# Altium schematic symbol library Vyrodov.SchLib: 217 symbols (part 1 of 2)
Pins are listed as number, name and electrical type; pins without a type are passive.

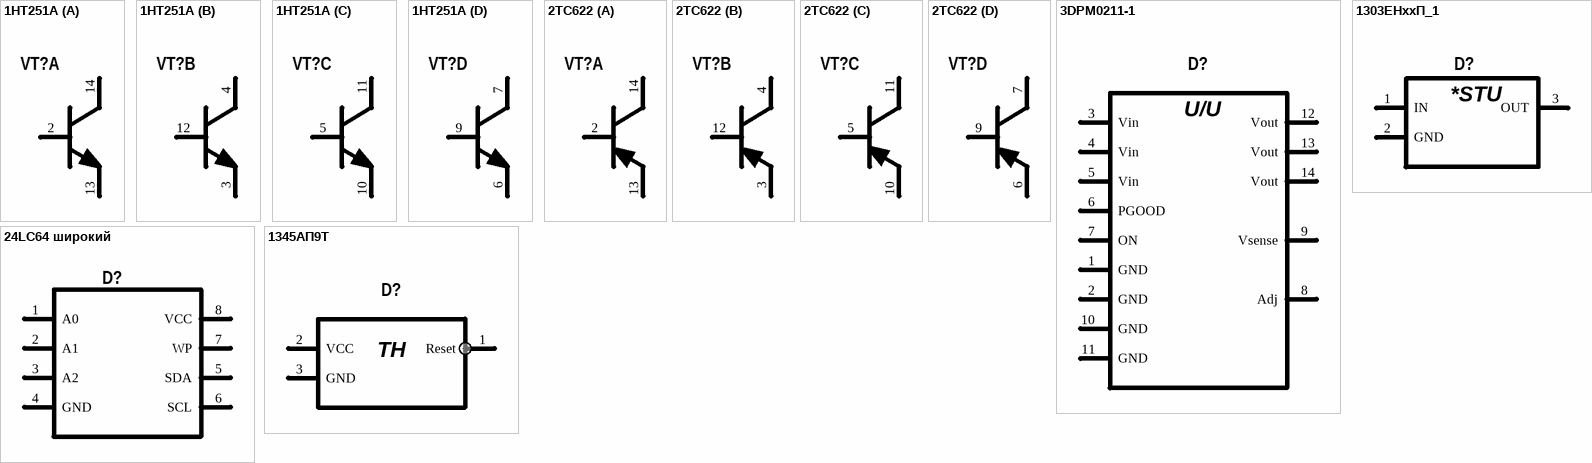
[diagram p0: symbols 1НТ251A to 1345АП9Т]

## 1НТ251A
designator VT?  (value not drawn)
Value: 1НТ251А
footprint 401.14-6 (Footprint not found)
part A pins: 2 B, 13 E, 14 C
part B pins: 3 E, 4 C, 12 B
part C pins: 5 B, 10 E, 11 C
part D pins: 6 У, 7 C, 9 B

## 2ТС622
designator VT?  (value not drawn)
Value: 2ТС622А1
footprint 401.14-6 (Footprint not found)
part A pins: 2 B, 13 E, 14 C
part B pins: 3 E, 4 C, 12 B
part C pins: 5 B, 10 E, 11 C
part D pins: 6 У, 7 C, 9 B

## 3DPM0211-1
designator D?  (value not drawn)
Value: 3DPM0211-1
pins: 1 GND, 2 GND, 3 Vin, 4 Vin, 5 Vin, 6 PGOOD, 7 ON, 8 Adj, 9 Vsense, 10 GND, 11 GND, 12 Vout, 13 Vout, 14 Vout
text: U/U

## 24LC64 широкий
designator D?, comment 24LC64-I/SN  (value not drawn)
footprint SOIC-8 (Footprint not found)
pins: 1 A0, 2 A1, 3 A2, 4 GND (power), 5 SDA, 6 SCL, 7 WP, 8 VCC (power)

## 1303ЕНххП_1
designator D?, comment 1303ЕН1.8П  (value not drawn)
Value: 1303ЕН1.8П
footprint KT-28A-2.05 (Footprint not found)
pins: 1 IN, 2 GND, 3 OUT
text: *STU

## 1345АП9Т
designator D?, comment 1345АП9Т АЯЕР.431310.843ТУ  (value not drawn)
Value: 1345АП9Т АЯЕР.431310.843ТУ
footprint 4601.3-1 (Footprint not found)
pins: 1 Reset, 2 VCC, 3 GND
text: TH

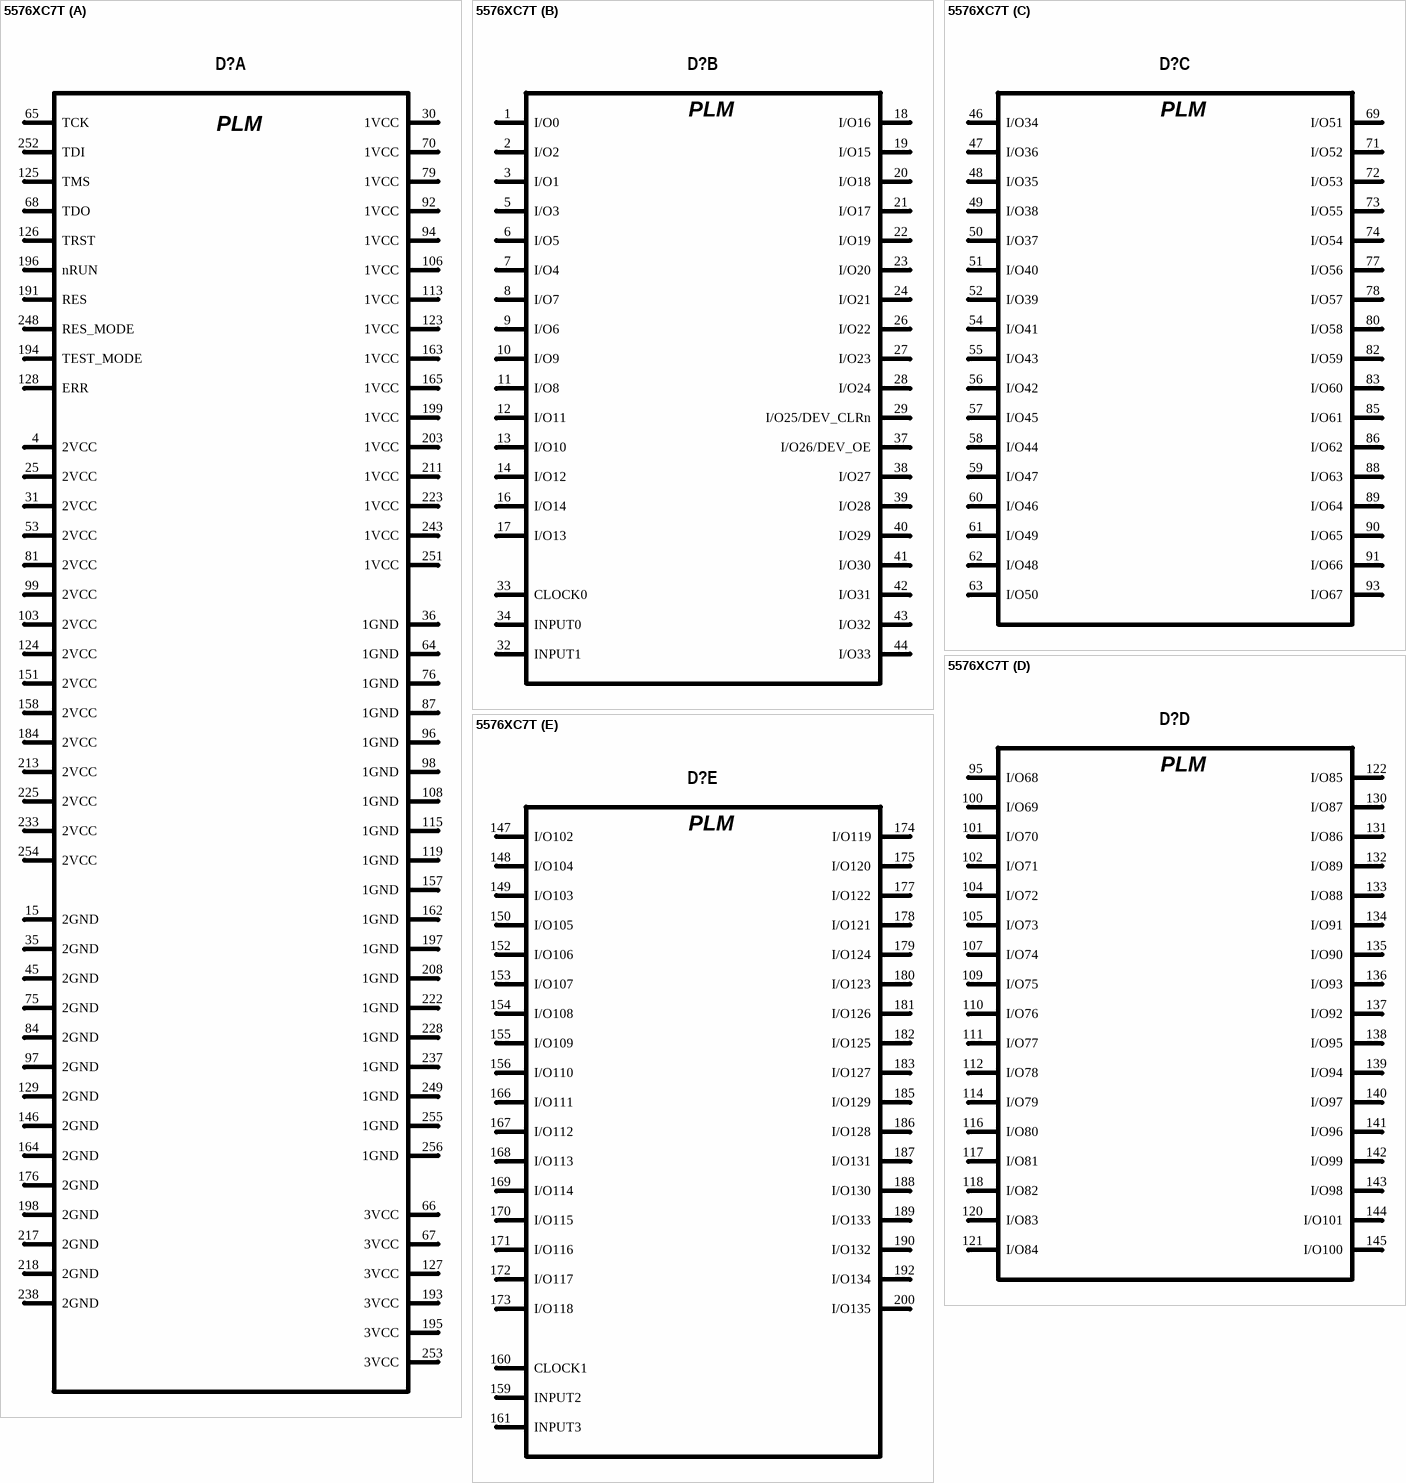
[diagram p1: symbol 5576ХС7Т]

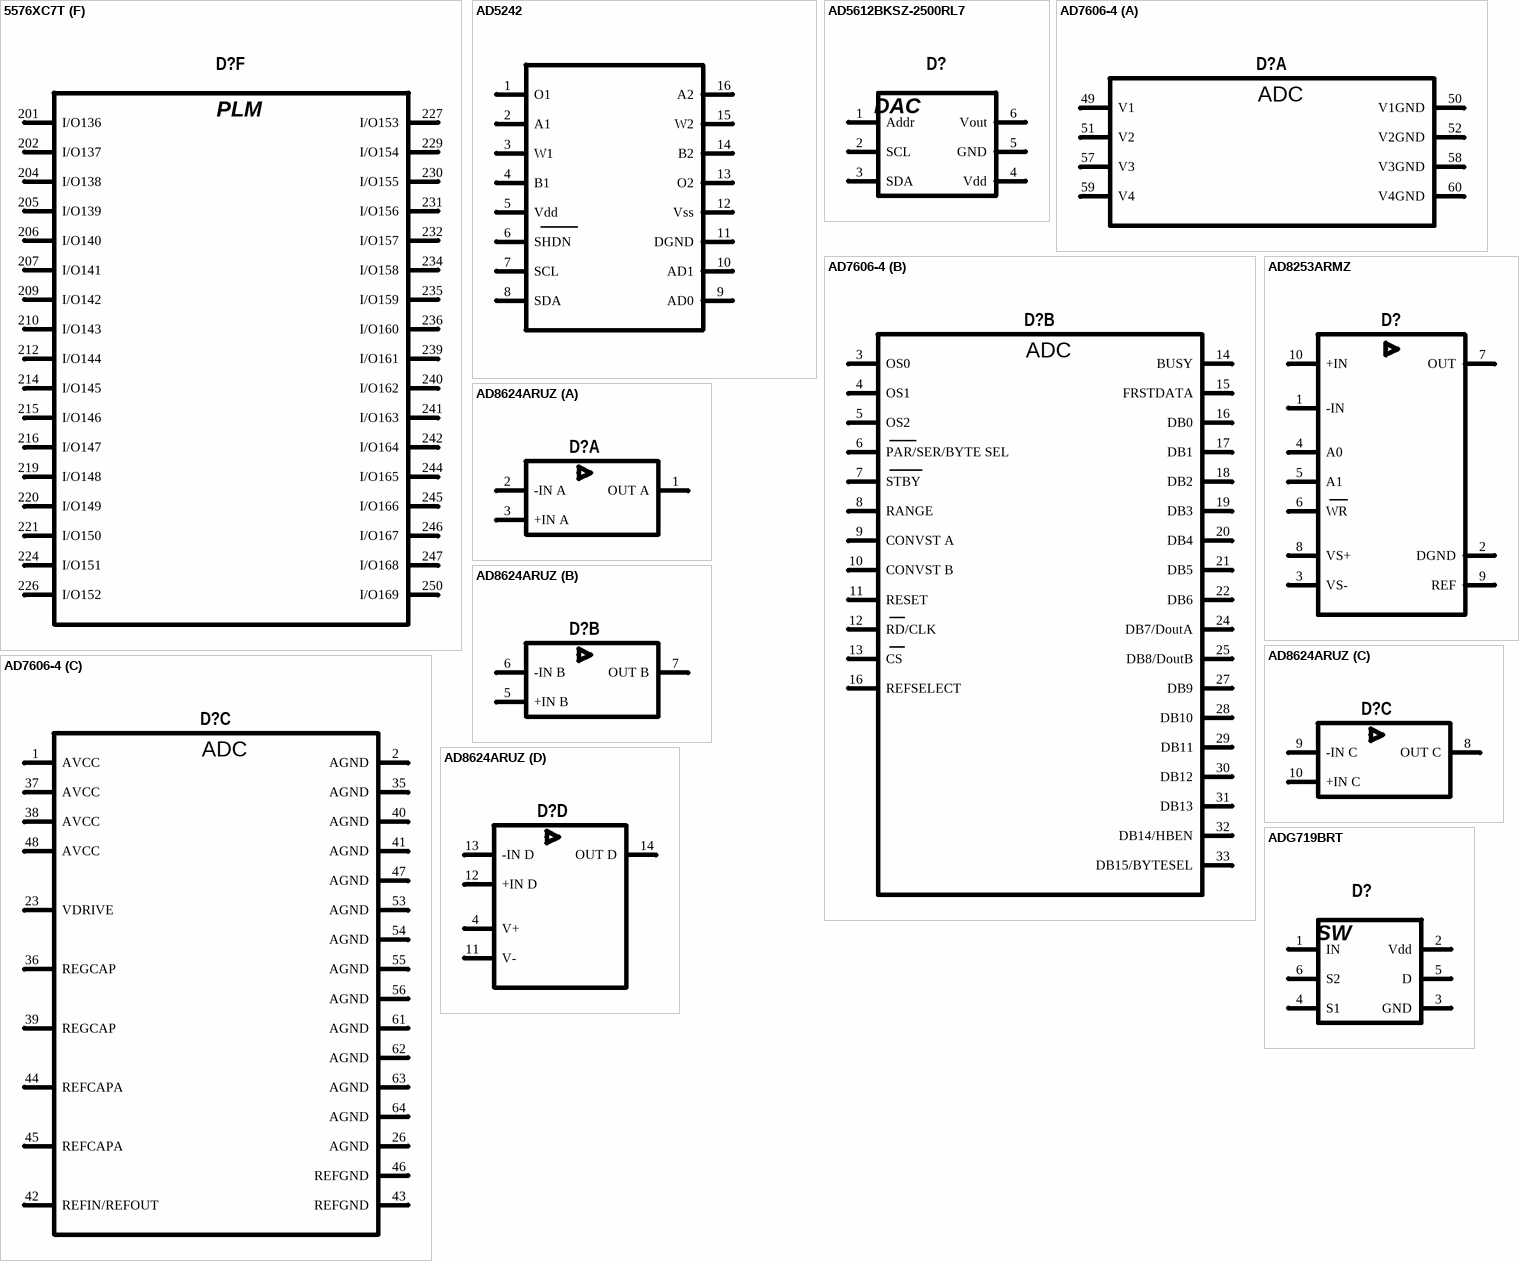
[diagram p2: symbols 5576ХС7Т to ADG719BRT]

## 5576ХС7Т
designator D?, comment 5576ХС7Т АЕНВ.431260.059ТУ  (value not drawn)
Value: 5576ХС7Т АЕНВ.431260.059ТУ
footprint 4244.256-3 (Footprint not found)
part A pins: 4 2VCC, 15 2GND, 25 2VCC, 30 1VCC, 31 2VCC, 35 2GND, 36 1GND, 45 2GND, 53 2VCC, 64 1GND, 65 TCK, 66 3VCC, 67 3VCC, 68 TDO, 70 1VCC, 75 2GND, 76 1GND, 79 1VCC, 81 2VCC, 84 2GND, 87 1GND, 92 1VCC, 94 1VCC, 96 1GND, 97 2GND, 98 1GND, 99 2VCC, 103 2VCC, 106 1VCC, 108 1GND, 113 1VCC, 115 1GND, 119 1GND, 123 1VCC, 124 2VCC, 125 TMS, 126 TRST, 127 3VCC, 128 ERR, 129 2GND, 146 2GND, 151 2VCC, 157 1GND, 158 2VCC, 162 1GND, 163 1VCC, 164 2GND, 165 1VCC, 176 2GND, 184 2VCC, 191 RES, 193 3VCC, 194 TEST_MODE, 195 3VCC, 196 nRUN, 197 1GND, 198 2GND, 199 1VCC, 203 1VCC, 208 1GND, 211 1VCC, 213 2VCC, 217 2GND, 218 2GND, 222 1GND, 223 1VCC, 225 2VCC, 228 1GND, 233 2VCC, 237 1GND, 238 2GND, 243 1VCC, 248 RES_MODE, 249 1GND, 251 1VCC, 252 TDI, 253 3VCC, 254 2VCC, 255 1GND, 256 1GND
part B pins: 1 I/O0, 2 I/O2, 3 I/O1, 5 I/O3, 6 I/O5, 7 I/O4, 8 I/O7, 9 I/O6, 10 I/O9, 11 I/O8, 12 I/O11, 13 I/O10, 14 I/O12, 16 I/O14, 17 I/O13, 18 I/O16, 19 I/O15, 20 I/O18, 21 I/O17, 22 I/O19, 23 I/O20, 24 I/O21, 26 I/O22, 27 I/O23, 28 I/O24, 29 I/O25/DEV_CLRn, 32 INPUT1, 33 CLOCK0, 34 INPUT0, 37 I/O26/DEV_OE, 38 I/O27, 39 I/O28, 40 I/O29, 41 I/O30, 42 I/O31, 43 I/O32, 44 I/O33
part C pins: 46 I/O34, 47 I/O36, 48 I/O35, 49 I/O38, 50 I/O37, 51 I/O40, 52 I/O39, 54 I/O41, 55 I/O43, 56 I/O42, 57 I/O45, 58 I/O44, 59 I/O47, 60 I/O46, 61 I/O49, 62 I/O48, 63 I/O50, 69 I/O51, 71 I/O52, 72 I/O53, 73 I/O55, 74 I/O54, 77 I/O56, 78 I/O57, 80 I/O58, 82 I/O59, 83 I/O60, 85 I/O61, 86 I/O62, 88 I/O63, 89 I/O64, 90 I/O65, 91 I/O66, 93 I/O67
part D pins: 95 I/O68, 100 I/O69, 101 I/O70, 102 I/O71, 104 I/O72, 105 I/O73, 107 I/O74, 109 I/O75, 110 I/O76, 111 I/O77, 112 I/O78, 114 I/O79, 116 I/O80, 117 I/O81, 118 I/O82, 120 I/O83, 121 I/O84, 122 I/O85, 130 I/O87, 131 I/O86, 132 I/O89, 133 I/O88, 134 I/O91, 135 I/O90, 136 I/O93, 137 I/O92, 138 I/O95, 139 I/O94, 140 I/O97, 141 I/O96, 142 I/O99, 143 I/O98, 144 I/O101, 145 I/O100
part E pins: 147 I/O102, 148 I/O104, 149 I/O103, 150 I/O105, 152 I/O106, 153 I/O107, 154 I/O108, 155 I/O109, 156 I/O110, 159 INPUT2, 160 CLOCK1, 161 INPUT3, 166 I/O111, 167 I/O112, 168 I/O113, 169 I/O114, 170 I/O115, 171 I/O116, 172 I/O117, 173 I/O118, 174 I/O119, 175 I/O120, 177 I/O122, 178 I/O121, 179 I/O124, 180 I/O123, 181 I/O126, 182 I/O125, 183 I/O127, 185 I/O129, 186 I/O128, 187 I/O131, 188 I/O130, 189 I/O133, 190 I/O132, 192 I/O134, 200 I/O135
part F pins: 201 I/O136, 202 I/O137, 204 I/O138, 205 I/O139, 206 I/O140, 207 I/O141, 209 I/O142, 210 I/O143, 212 I/O144, 214 I/O145, 215 I/O146, 216 I/O147, 219 I/O148, 220 I/O149, 221 I/O150, 224 I/O151, 226 I/O152, 227 I/O153, 229 I/O154, 230 I/O155, 231 I/O156, 232 I/O157, 234 I/O158, 235 I/O159, 236 I/O160, 239 I/O161, 240 I/O162, 241 I/O163, 242 I/O164, 244 I/O165, 245 I/O166, 246 I/O167, 247 I/O168, 250 I/O169
part A text: PLM
part B text: PLM
part C text: PLM
part D text: PLM
part E text: PLM
part F text: PLM

## AD5242
designator D?, comment DPOT  (value not drawn)
Type: *; Value: *
pins: 1 O1, 2 A1, 3 W1, 4 B1, 5 Vdd, 6 SHDN, 7 SCL, 8 SDA, 9 AD0, 10 AD1, 11 DGND, 12 Vss, 13 O2, 14 B2, 15 W2, 16 A2

## AD5612BKSZ-2500RL7
designator D?  (value not drawn)
2.7 V to 5.5 V, <100 ?A, 8-/10-/12-Bit nanoDACs® with  I2C®-Compatible Interface in LFCSP and SC70; Value: AD5612BKSZ-2500RL7
footprint SC70 (KS-6)
pins: 1 Addr, 2 SCL, 3 SDA, 4 Vdd, 5 GND, 6 Vout
text: DAC

## AD7606-4
designator D?  (value not drawn)
part A pins: 49 V1, 50 V1GND, 51 V2, 52 V2GND, 57 V3, 58 V3GND, 59 V4, 60 V4GND
part B pins: 3 OS0, 4 OS1, 5 OS2, 6 PAR/SER/BYTE SEL, 7 STBY, 8 RANGE, 9 CONVST A, 10 CONVST B, 11 RESET, 12 RD/CLK, 13 CS, 14 BUSY, 15 FRSTDATA, 16 REFSELECT, 16 DB0, 17 DB1, 18 DB2, 19 DB3, 20 DB4, 21 DB5, 22 DB6, 24 DB7/DoutA, 25 DB8/DoutB, 27 DB9, 28 DB10, 29 DB11, 30 DB12, 31 DB13, 32 DB14/HBEN, 33 DB15/BYTESEL
part C pins: 1 AVCC, 2 AGND, 23 VDRIVE, 26 AGND, 35 AGND, 36 REGCAP, 37 AVCC, 38 AVCC, 39 REGCAP, 40 AGND, 41 AGND, 42 REFIN/REFOUT, 43 REFGND, 44 REFCAPA, 45 REFCAPA, 46 REFGND, 47 AGND, 48 AVCC, 53 AGND, 54 AGND, 55 AGND, 56 AGND, 61 AGND, 62 AGND, 63 AGND, 64 AGND
part A text: ADC
part B text: ADC
part C text: ADC

## AD8253ARMZ
designator D?  (value not drawn)
pins: 1 -IN, 2 DGND, 3 VS-, 4 A0, 5 A1, 6 WR, 7 OUT, 8 VS+, 9 REF, 10 +IN

## AD8624ARUZ
designator D?  (value not drawn)
part A pins: 1 OUT A, 2 -IN A, 3 +IN A
part B pins: 5 +IN B, 6 -IN B, 7 OUT B
part C pins: 8 OUT C, 9 -IN C, 10 +IN C
part D pins: 4 V+, 11 V-, 12 +IN D, 13 -IN D, 14 OUT D

## ADG719BRT
designator D?  (value not drawn)
CMOS 1.8 V to 5.5 V, 2.5 ?  2:1 Mux/SPDT Switch in SOT-23; Value: ADG719BRT
footprint S6 (Footprint not found)
pins: 1 IN, 2 Vdd, 3 GND, 4 S1, 5 D, 6 S2
text: SW

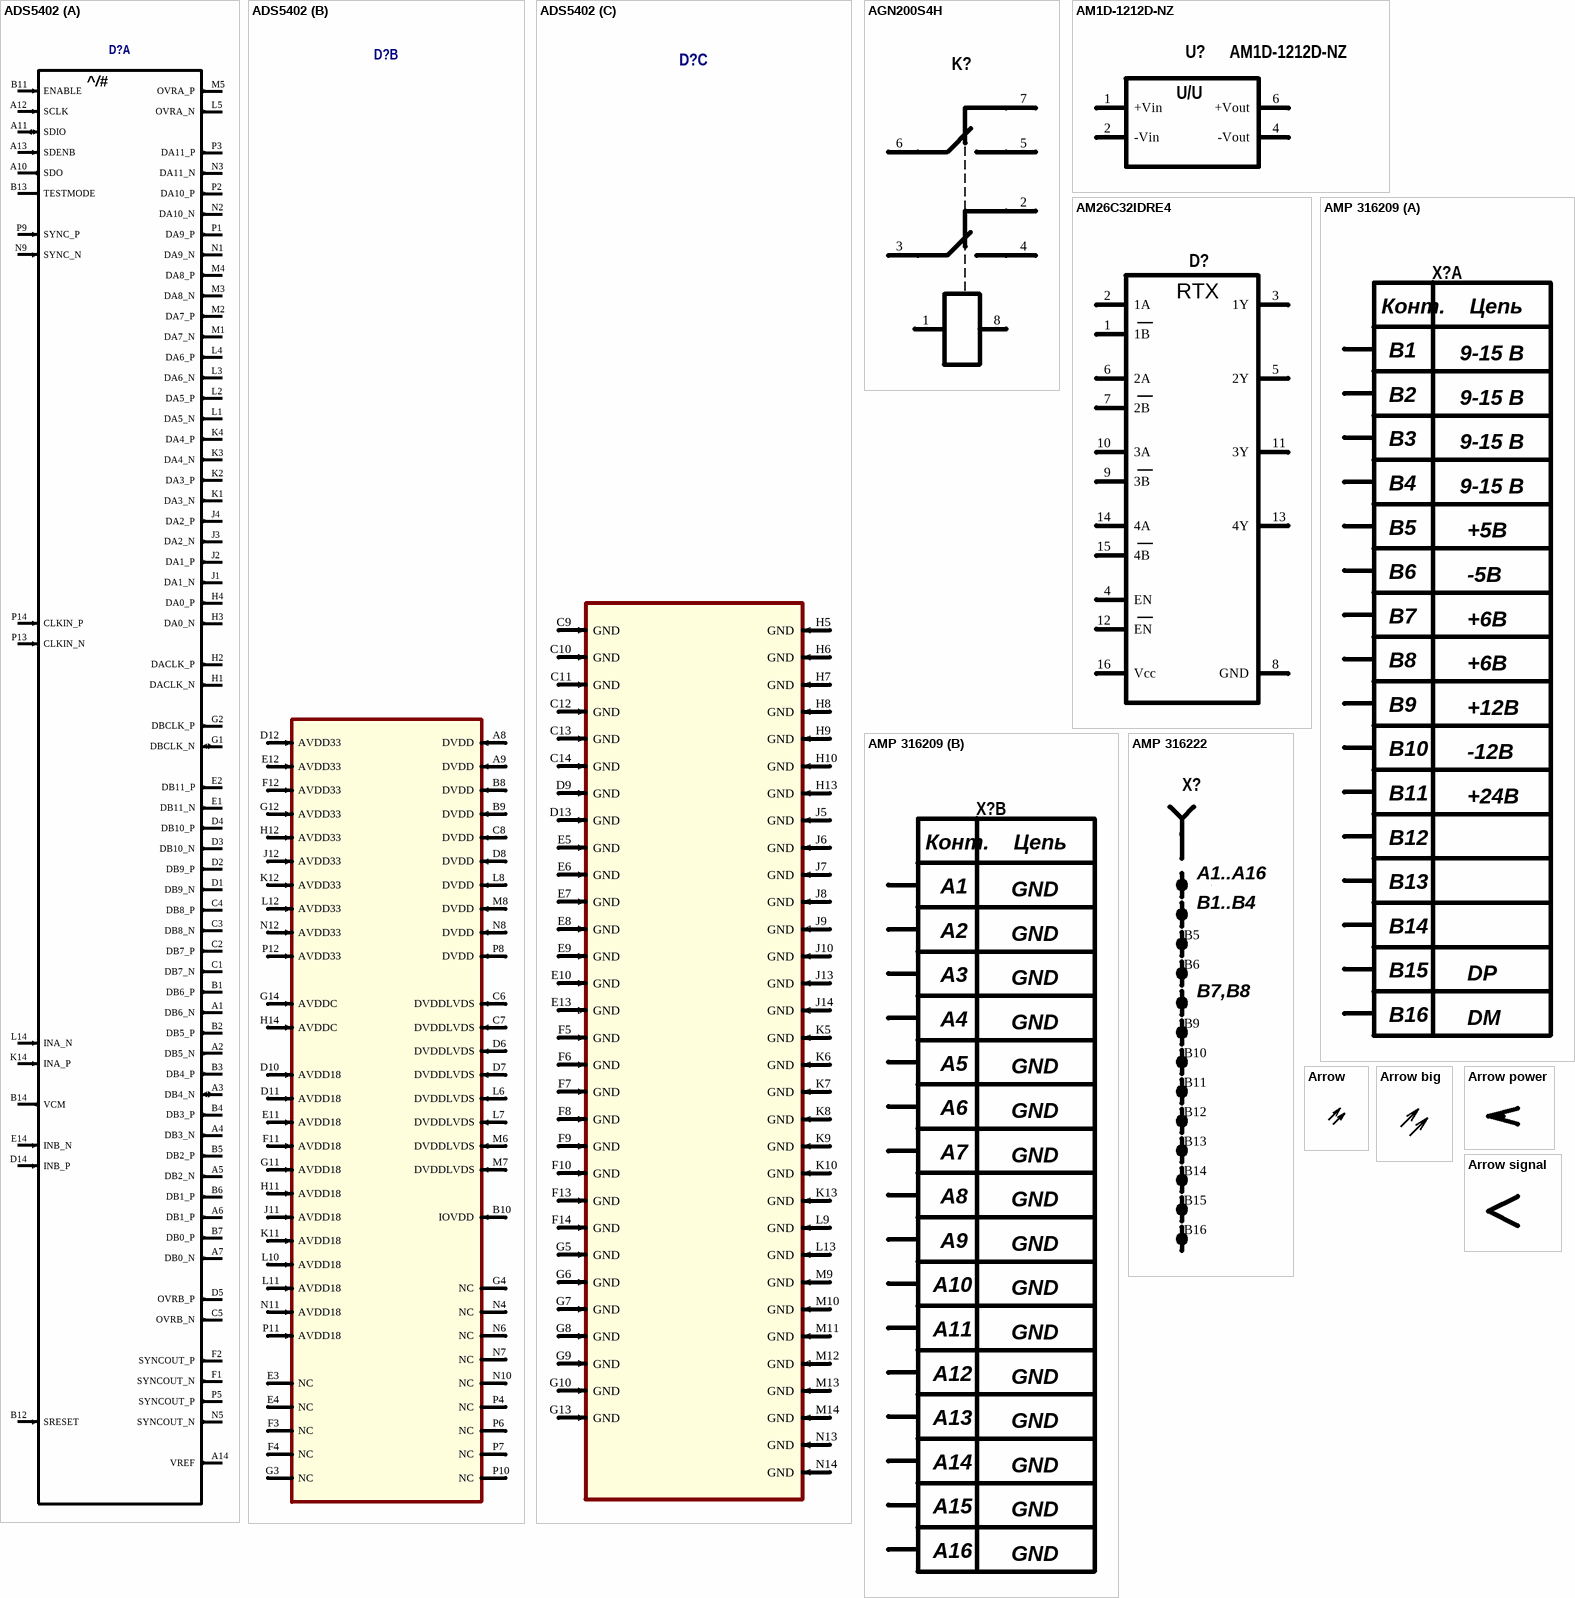
[diagram p3: symbols ADS5402 to Arrow signal]

## ADS5402
designator D?, comment ADS5402IZAY  (value not drawn)
Dual 12-Bit 800Msps Analog-to-Digital Converter
footprint ZAY BGA100P9X9-81A (S-PBGA-N196 Texas Instr)
ibis ADS5402IZAY (Model Description)
part A pins: A1 DB6_N (out) "ADC B Data Bits 11 (MSB) to 0 (LSB) in DDR output mode. Standard LVDS output.", A2 DB5_N (out) "ADC B Data Bits 11 (MSB) to 0 (LSB) in DDR output mode. Standard LVDS output.", A3 DB4_N (io) "ADC B Data Bits 11 (MSB) to 0 (LSB) in DDR output mode. Standard LVDS output.", A4 DB3_N (out) "ADC B Data Bits 11 (MSB) to 0 (LSB) in DDR output mode. Standard LVDS output.", A5 DB2_N (out) "ADC B Data Bits 11 (MSB) to 0 (LSB) in DDR output mode. Standard LVDS output.", A6 DB1_P (out) "ADC B Data Bits 11 (MSB) to 0 (LSB) in DDR output mode. Standard LVDS output.", A7 DB0_N (out) "ADC B Data Bits 11 (MSB) to 0 (LSB) in DDR output mode. Standard LVDS output.", A10 SDO (out) "Uni-directional serial interface data in 4 pin mode (register x00, D16). The SDO pin is tri- stated in 3-pin interface mode (default).", A11 SDIO (io) "Bi-directional serial data in 3 pin mode (default", A12 SCLK (in) "Serial interface clock", A13 SDENB (in) "Serial interface enable", A14 VREF (out) "Reference voltage output (2V nominal). A 0.1?F capacitor to AGND is recommended, but not required.", B1 DB6_P (out) "ADC B Data Bits 11 (MSB) to 0 (LSB) in DDR output mode. Standard LVDS output.", B2 DB5_P (out) "ADC B Data Bits 11 (MSB) to 0 (LSB) in DDR output mode. Standard LVDS output.", B3 DB4_P (out) "ADC B Data Bits 11 (MSB) to 0 (LSB) in DDR output mode. Standard LVDS output.", B4 DB3_P (out) "ADC B Data Bits 11 (MSB) to 0 (LSB) in DDR output mode. Standard LVDS output.", B5 DB2_P (out) "ADC B Data Bits 11 (MSB) to 0 (LSB) in DDR output mode. Standard LVDS output.", B6 DB1_P (out) "ADC B Data Bits 11 (MSB) to 0 (LSB) in DDR output mode. Standard LVDS output.", B7 DB0_P (out) "ADC B Data Bits 11 (MSB) to 0 (LSB) in DDR output mode. Standard LVDS output.", B11 ENABLE (in) "Chip enable – active high", B12 SRESET (in) "Serial interface reset input", B13 TESTMODE "Factory internal test, do not connect", B14 VCM (out) "Output of the analog input common mode (nominally 1.9V). A 0.1?F capacitor to AGND is recommended.", C1 DB7_N (out) "ADC B Data Bits 11 (MSB) to 0 (LSB) in DDR output mode. Standard LVDS output.", C2 DB7_P (out) "ADC B Data Bits 11 (MSB) to 0 (LSB) in DDR output mode. Standard LVDS output.", C3 DB8_N (out) "ADC B Data Bits 11 (MSB) to 0 (LSB) in DDR output mode. Standard LVDS output.", C4 DB8_P (out) "ADC B Data Bits 11 (MSB) to 0 (LSB) in DDR output mode. Standard LVDS output.", C5 OVRB_N (out) "Bus B, Overrange indicator, LVDS output.", D1 DB9_N (out) "ADC B Data Bits 11 (MSB) to 0 (LSB) in DDR output mode. Standard LVDS output.", D2 DB9_P (out) "ADC B Data Bits 11 (MSB) to 0 (LSB) in DDR output mode. Standard LVDS output.", D3 DB10_N (out) "ADC B Data Bits 11 (MSB) to 0 (LSB) in DDR output mode. Standard LVDS output.", D4 DB10_P (out) "ADC B Data Bits 11 (MSB) to 0 (LSB) in DDR output mode. Standard LVDS output.", D5 OVRB_P (out) "Bus B, Overrange indicator, LVDS output.", D14 INB_P (in) "Analog ADC B differential input signal.", E1 DB11_N (out) "ADC B Data Bits 11 (MSB) to 0 (LSB) in DDR output mode. Standard LVDS output.", E2 DB11_P (out) "ADC B Data Bits 11 (MSB) to 0 (LSB) in DDR output mode. Standard LVDS output.", E14 INB_N (in) "Analog ADC B differential input signal.", F1 SYNCOUT_N (out) "Synchronization output signal for synchronizing multiple ADCs.", F2 SYNCOUT_P (out) "Synchronization output signal for synchronizing multiple ADCs.", G1 DBCLK_N (io) "DDR differential output data clock for Bus B.", G2 DBCLK_P (out) "DDR differential output data clock for Bus B.", H1 DACLK_N (out) "DDR differential output data clock for Bus A.", H2 DACLK_P (out) "DDR differential output data clock for Bus A.", H3 DA0_N (out) "ADC A Data Bits 11 (MSB) to 0 (LSB) in DDR output mode. Standard LVDS output", H4 DA0_P (out) "ADC A Data Bits 11 (MSB) to 0 (LSB) in DDR output mode. Standard LVDS output", J1 DA1_N (out) "ADC A Data Bits 11 (MSB) to 0 (LSB) in DDR output mode. Standard LVDS output", J2 DA1_P (out) "ADC A Data Bits 11 (MSB) to 0 (LSB) in DDR output mode. Standard LVDS output", J3 DA2_N (out) "ADC A Data Bits 11 (MSB) to 0 (LSB) in DDR output mode. Standard LVDS output", J4 DA2_P (out) "ADC A Data Bits 11 (MSB) to 0 (LSB) in DDR output mode. Standard LVDS output", K1 DA3_N (out), K2 DA3_P (out) "ADC A Data Bits 11 (MSB) to 0 (LSB) in DDR output mode. Standard LVDS output", K3 DA4_N (out) "ADC A Data Bits 11 (MSB) to 0 (LSB) in DDR output mode. Standard LVDS output", K4 DA4_P (out) "ADC A Data Bits 11 (MSB) to 0 (LSB) in DDR output mode. Standard LVDS output", K14 INA_P (in) "Analog ADC A differential input signal", L1 DA5_N (out), L2 DA5_P (out) "ADC A Data Bits 11 (MSB) to 0 (LSB) in DDR output mode. Standard LVDS output", L3 DA6_N (out) "ADC A Data Bits 11 (MSB) to 0 (LSB) in DDR output mode. Standard LVDS output", L4 DA6_P (out) "ADC A Data Bits 11 (MSB) to 0 (LSB) in DDR output mode. Standard LVDS output", L5 OVRA_N (out) "Bus A, Overrange indicator, LVDS output", L14 INA_N (in) "Analog ADC A differential input signal", M1 DA7_N (out) "ADC A Data Bits 11 (MSB) to 0 (LSB) in DDR output mode. Standard LVDS output", M2 DA7_P (out) "ADC A Data Bits 11 (MSB) to 0 (LSB) in DDR output mode. Standard LVDS output", M3 DA8_N (out) "ADC A Data Bits 11 (MSB) to 0 (LSB) in DDR output mode. Standard LVDS output", M4 DA8_P (out) "ADC A Data Bits 11 (MSB) to 0 (LSB) in DDR output mode. Standard LVDS output", M5 OVRA_P (out) "Bus A, Overrange indicator, LVDS output", N1 DA9_N (out) "ADC A Data Bits 11 (MSB) to 0 (LSB) in DDR output mode. Standard LVDS output", N2 DA10_N (out) "ADC A Data Bits 11 (MSB) to 0 (LSB) in DDR output mode. Standard LVDS output", N3 DA11_N (out) "ADC A Data Bits 11 (MSB) to 0 (LSB) in DDR output mode. Standard LVDS output", N5 SYNCOUT_N (out) "Synchronization output signal for synchronizing multiple ADCs.", N9 SYNC_N (in) "Synchronization input", P1 DA9_P (out) "ADC A Data Bits 11 (MSB) to 0 (LSB) in DDR output mode. Standard LVDS output", P2 DA10_P (out) "ADC A Data Bits 11 (MSB) to 0 (LSB) in DDR output mode. Standard LVDS output", P3 DA11_P (out) "ADC A Data Bits 11 (MSB) to 0 (LSB) in DDR output mode. Standard LVDS output", P5 SYNCOUT_P (out) "Synchronization output signal for synchronizing multiple ADCs.", P9 SYNC_P (in) "Synchronization input", P13 CLKIN_N (in) "Differential input clock", P14 CLKIN_P (in) "Differential input clock"
part B pins: A8 DVDD (in) "1.8V supply for digital block", A9 DVDD (in) "1.8V supply for digital block", B8 DVDD (in) "1.8V supply for digital block", B9 DVDD (in) "1.8V supply for digital block", B10 IOVDD (in) "1.8V for digital I/Os", C6 DVDDLVDS (in) "1.8V supply for LVDS outputs", C7 DVDDLVDS (in) "1.8V supply for LVDS outputs", C8 DVDD (in) "1.8V supply for digital block", D6 DVDDLVDS (in) "1.8V supply for LVDS outputs", D7 DVDDLVDS (in) "1.8V supply for LVDS outputs", D8 DVDD (in) "1.8V supply for digital block", D10 AVDD18 (in) "1.8V analog supply", D11 AVDD18 (in) "1.8V analog supply", D12 AVDD33 (in) "3.3V analog supply", E3 NC, E4 NC, E11 AVDD18 (in) "1.8V analog supply", E12 AVDD33 (in) "3.3V analog supply", F3 NC, F4 NC, F11 AVDD18 (in) "1.8V analog supply", F12 AVDD33 (in) "3.3V analog supply", G3 NC, G4 NC, G11 AVDD18 (in) "1.8V analog supply", G12 AVDD33 (in) "3.3V analog supply", G14 AVDDC (in) "1.8V supply for clock input", H11 AVDD18 (in) "1.8V analog supply", H12 AVDD33 (in) "3.3V analog supply", H14 AVDDC (in) "1.8V supply for clock input", J11 AVDD18 (in) "1.8V analog supply", J12 AVDD33 (in) "3.3V analog supply", K11 AVDD18 (in) "1.8V analog supply", K12 AVDD33 (in) "3.3V analog supply", L6 DVDDLVDS (in) "1.8V supply for LVDS outputs", L7 DVDDLVDS (in) "1.8V supply for LVDS outputs", L8 DVDD (in) "1.8V supply for digital block", L10 AVDD18 (in) "1.8V analog supply", L11 AVDD18 (in) "1.8V analog supply", L12 AVDD33 (in) "3.3V analog supply", M6 DVDDLVDS (in) "1.8V supply for LVDS outputs", M7 DVDDLVDS (in) "1.8V supply for LVDS outputs", M8 DVDD (in) "1.8V supply for digital block", N4 NC, N6 NC, N7 NC, N8 DVDD (in) "1.8V supply for digital block", N10 NC, N11 AVDD18 (in) "1.8V analog supply", N12 AVDD33 (in) "3.3V analog supply", P4 NC, P6 NC, P7 NC, P8 DVDD (in) "1.8V supply for digital block", P10 NC, P11 AVDD18 (in) "1.8V analog supply", P12 AVDD33 (in) "3.3V analog supply"
part C pins: C9 GND (in), C10 GND (in), C11 GND (in), C12 GND (in), C13 GND (in), C14 GND (in), D9 GND (in), D13 GND (in), E5 GND (in), E6 GND (in), E7 GND (in), E8 GND (in), E9 GND (in), E10 GND (in), E13 GND (in), F5 GND (in), F6 GND (in), F7 GND (in), F8 GND (in), F9 GND (in), F10 GND (in), F13 GND (in), F14 GND (in), G5 GND (in), G6 GND (in), G7 GND (in), G8 GND (in), G9 GND (in), G10 GND (in), G13 GND (in), H5 GND (in), H6 GND (in), H7 GND (in), H8 GND (in), H9 GND (in), H10 GND (in), H13 GND (in), J5 GND (in), J6 GND (in), J7 GND (in), J8 GND (in), J9 GND (in), J10 GND (in), J13 GND (in), J14 GND (in), K5 GND (in), K6 GND (in), K7 GND (in), K8 GND (in), K9 GND (in), K10 GND (in), K13 GND (in), L9 GND (in), L13 GND (in), M9 GND (in), M10 GND (in), M11 GND (in), M12 GND (in), M13 GND (in), M14 GND (in), N13 GND (in), N14 GND (in)
part A text: ^/#

## AGN200S4H
designator K?  (value not drawn)
Value: AGN200S4
pins: 1, 2, 3, 4, 5, 6, 7, 8

## AM1D-1212D-NZ
designator U?
Value: AM1D-1212D-NZ
pins: 1 +Vin, 2 -Vin, 4 -Vout, 6 +Vout
text: U/U

## AM26C32IDRE4
designator D?  (value not drawn)
Value: AM26C32IDRE4
footprint M16A_N (Footprint not found)
pins: 1 1B, 2 1A, 3 1Y, 4 EN, 5 2Y, 6 2A, 7 2B, 8 GND, 9 3B, 10 3A, 11 3Y, 12 EN, 13 4Y, 14 4A, 15 4B, 16 Vcc
text: RTX

## AMP 316209
designator X?  (value not drawn)
Value: AMP 316209
part A pins: 17 B1, 18 B2, 19 B3, 20 B4, 21 B5, 22 B6, 23 B7, 24 B8, 25 B9, 26 B10, 27 B11, 28 B12, 29 B13, 30 B14, 31 B15, 32 B16
part B pins: 1 A1, 2 A2, 3 A3, 4 A4, 5 A5, 6 A6, 7 A7, 8 A8, 9 A9, 10 A10, 11 A11, 12 A12, 13 A13, 14 A14, 15 A15, 16 A16
part A text: Конт.; Цепь; 9-15 B; +5В; -5В; +6В; +12В; -12В; +24В; DP; DM
part B text: Конт.; Цепь; GND

## AMP 316222
designator X?  (value not drawn)
Value: AMP 316222
pins: A1, A2, A3, A4, A5, A6, A7, A8, A9, A10, A11, A12, A13, A14, A15, A16, B1, B2, B3, B4, B5, B6, B7, B8, B9, B10, B11, B12, B13, B14, B15, B16
text: A1..A16; B1..B4; B7,B8

## Arrow
designator *  (value not drawn)  (graphical)

## Arrow big
designator *  (value not drawn)  (graphical)

## Arrow power
designator *  (value not drawn)  (graphical)

## Arrow signal
designator *  (value not drawn)  (graphical)

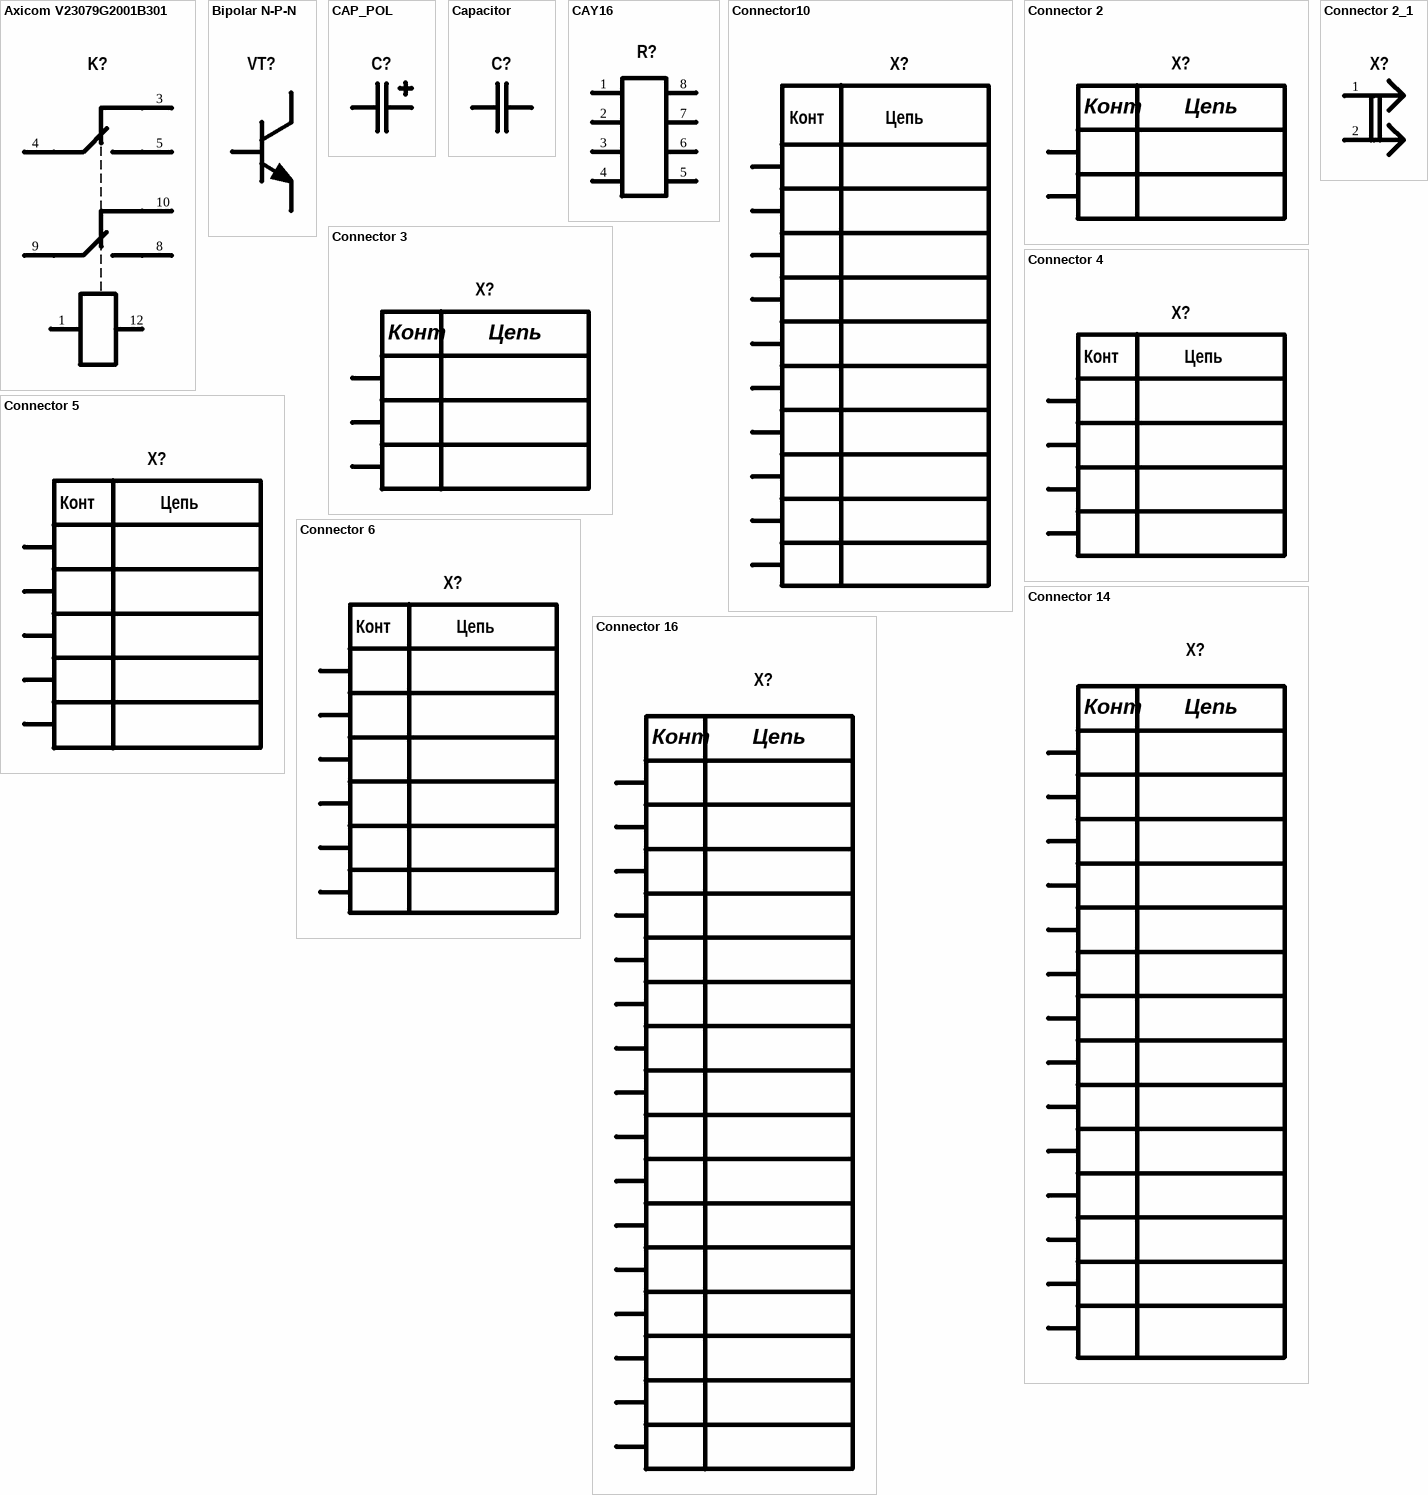
[diagram p4: symbols Axicom V23079G2001B301 to Connector 16]

## Axicom V23079G2001B301
designator K?  (value not drawn)
pins: 1, 3, 4, 5, 8, 9, 10, 12

## Bipolar N-P-N
designator VT?  (value not drawn)
Value: BC817-16LT
pins: 1 E, 2 B, 3 C

## CAP_POL
designator C?
footprint TAJA
footprint TAJE
footprint KVE83
footprint KVE-D10
footprint TAJB
footprint TAJC
footprint TAJD (Molded Capacitor, 2-Leads, Body 7,3x4,3mm)
pins: 1, 2

## Capacitor
designator C?  (value not drawn)
Value: *
pins: 1, 2

## CAY16
designator R?, comment CAY16-103J4LF  (value not drawn)
Value: CAY16-103J4LF
footprint cay-16
pins: 1, 2, 3, 4, 5, 6, 7, 8

## Connector10
designator X?
Value: *
footprint Model Name (Footprint not found)
pins: 1, 2, 3, 4, 5, 6, 7, 8, 9, 10
text: Конт; Цепь

## Connector 2
designator X?  (value not drawn)
Value: Вилка WF-02; Производитель: *
footprint WF-02 (Вилка WF-02)
pins: 1, 2
text: Конт; Цепь

## Connector 2_1
designator X?, comment PLS-2  (value not drawn)  (graphical)
Value: PLS-2
pins: 1, 2

## Connector 3
designator X?  (value not drawn)
pins: 1, 2, 3
text: Конт; Цепь

## Connector 4
designator X?  (value not drawn)
pins: 1, 2, 3, 4
text: Конт; Цепь

## Connector 5
designator X?  (value not drawn)
Value: *
pins: 1, 2, 3, 4, 5
text: Конт; Цепь

## Connector 6
designator X?  (value not drawn)
pins: 1, 2, 3, 4, 5, 6
text: Конт; Цепь

## Connector 14
designator X?
Value: Вилка двухрядная MOLEX 87831-1420 (14 контактов шаг 2мм)
footprint 0878314020 (2.00mm (.079") Pitch Milli-Grid™ Header)
pins: 1, 2, 3, 4, 5, 6, 7, 8, 9, 10, 11, 12, 13, 14
text: Конт; Цепь

## Connector 16
designator X?, comment Molex 52207-1660 (16х1 мм)  (value not drawn)
Type: Molex 52207-1660 (16х1 мм)
footprint Model Name (Footprint not found)
pins: 1, 2, 3, 4, 5, 6, 7, 8, 9, 10, 11, 12, 13, 14, 15, 16
text: Конт; Цепь

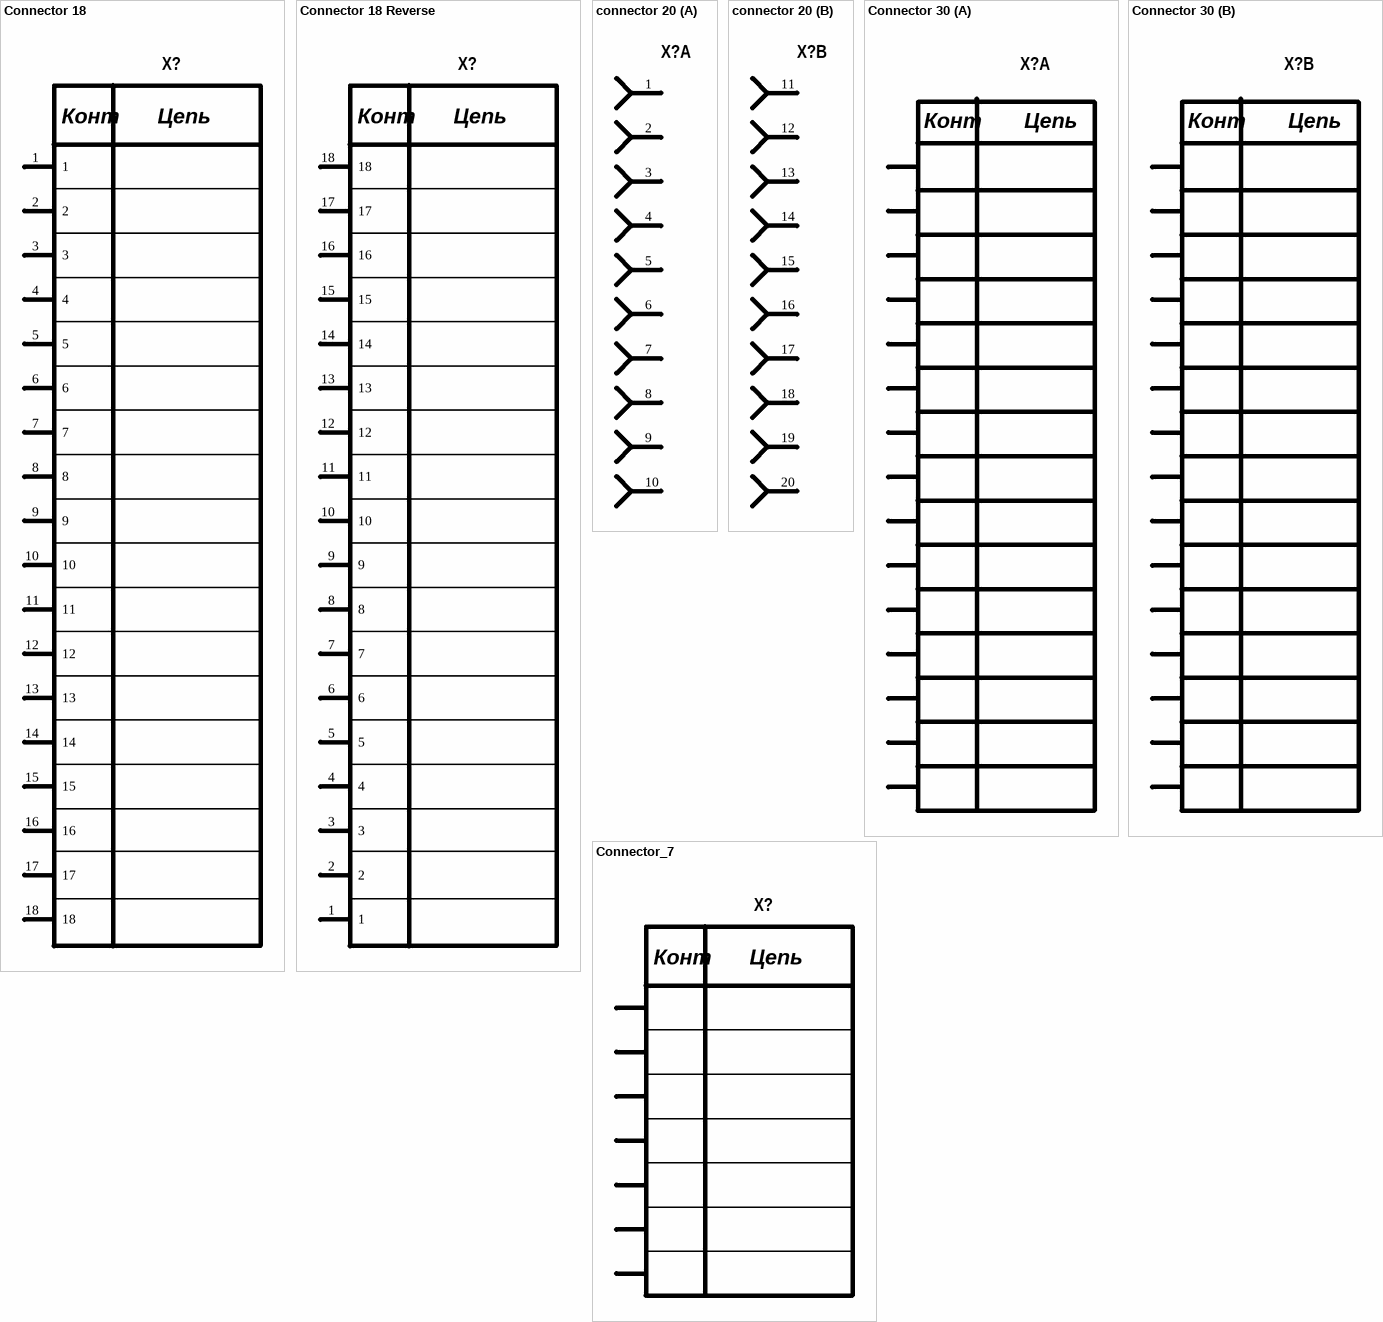
[diagram p5: symbols Connector 18 to Connector_7]

## Connector 18
designator X?, comment Molex 52207-1660 (16х1 мм)  (value not drawn)
Type: Molex 52207-1660 (16х1 мм)
footprint Model Name (Footprint not found)
pins: 1, 2, 3, 4, 5, 6, 7, 8, 9, 10, 11, 12, 13, 14, 15, 16, 17, 18
text: Конт; Цепь

## Connector 18 Reverse
designator X?
Value: Molex 52207-1660 (16х1 мм)
footprint Model Name (Footprint not found)
pins: 1, 2, 3, 4, 5, 6, 7, 8, 9, 10, 11, 12, 13, 14, 15, 16, 17, 18
text: Конт; Цепь

## connector 20
designator X?
part A pins: 1, 2, 3, 4, 5, 6, 7, 8, 9, 10
part B pins: 11, 12, 13, 14, 15, 16, 17, 18, 19, 20

## Connector 30
designator X?, comment PLD-30  (value not drawn)
Value: PLD-30
part A pins: 1, 3, 5, 7, 9, 11, 13, 15, 17, 19, 21, 23, 25, 27, 29
part B pins: 2, 4, 6, 8, 10, 12, 14, 16, 18, 20, 22, 24, 26, 28, 30
part A text: Конт; Цепь
part B text: Конт; Цепь

## Connector_7
designator X?
Value: *
footprint Model Name (Footprint not found)
pins: 1, 2, 3, 4, 5, 6, 7
text: Конт; Цепь

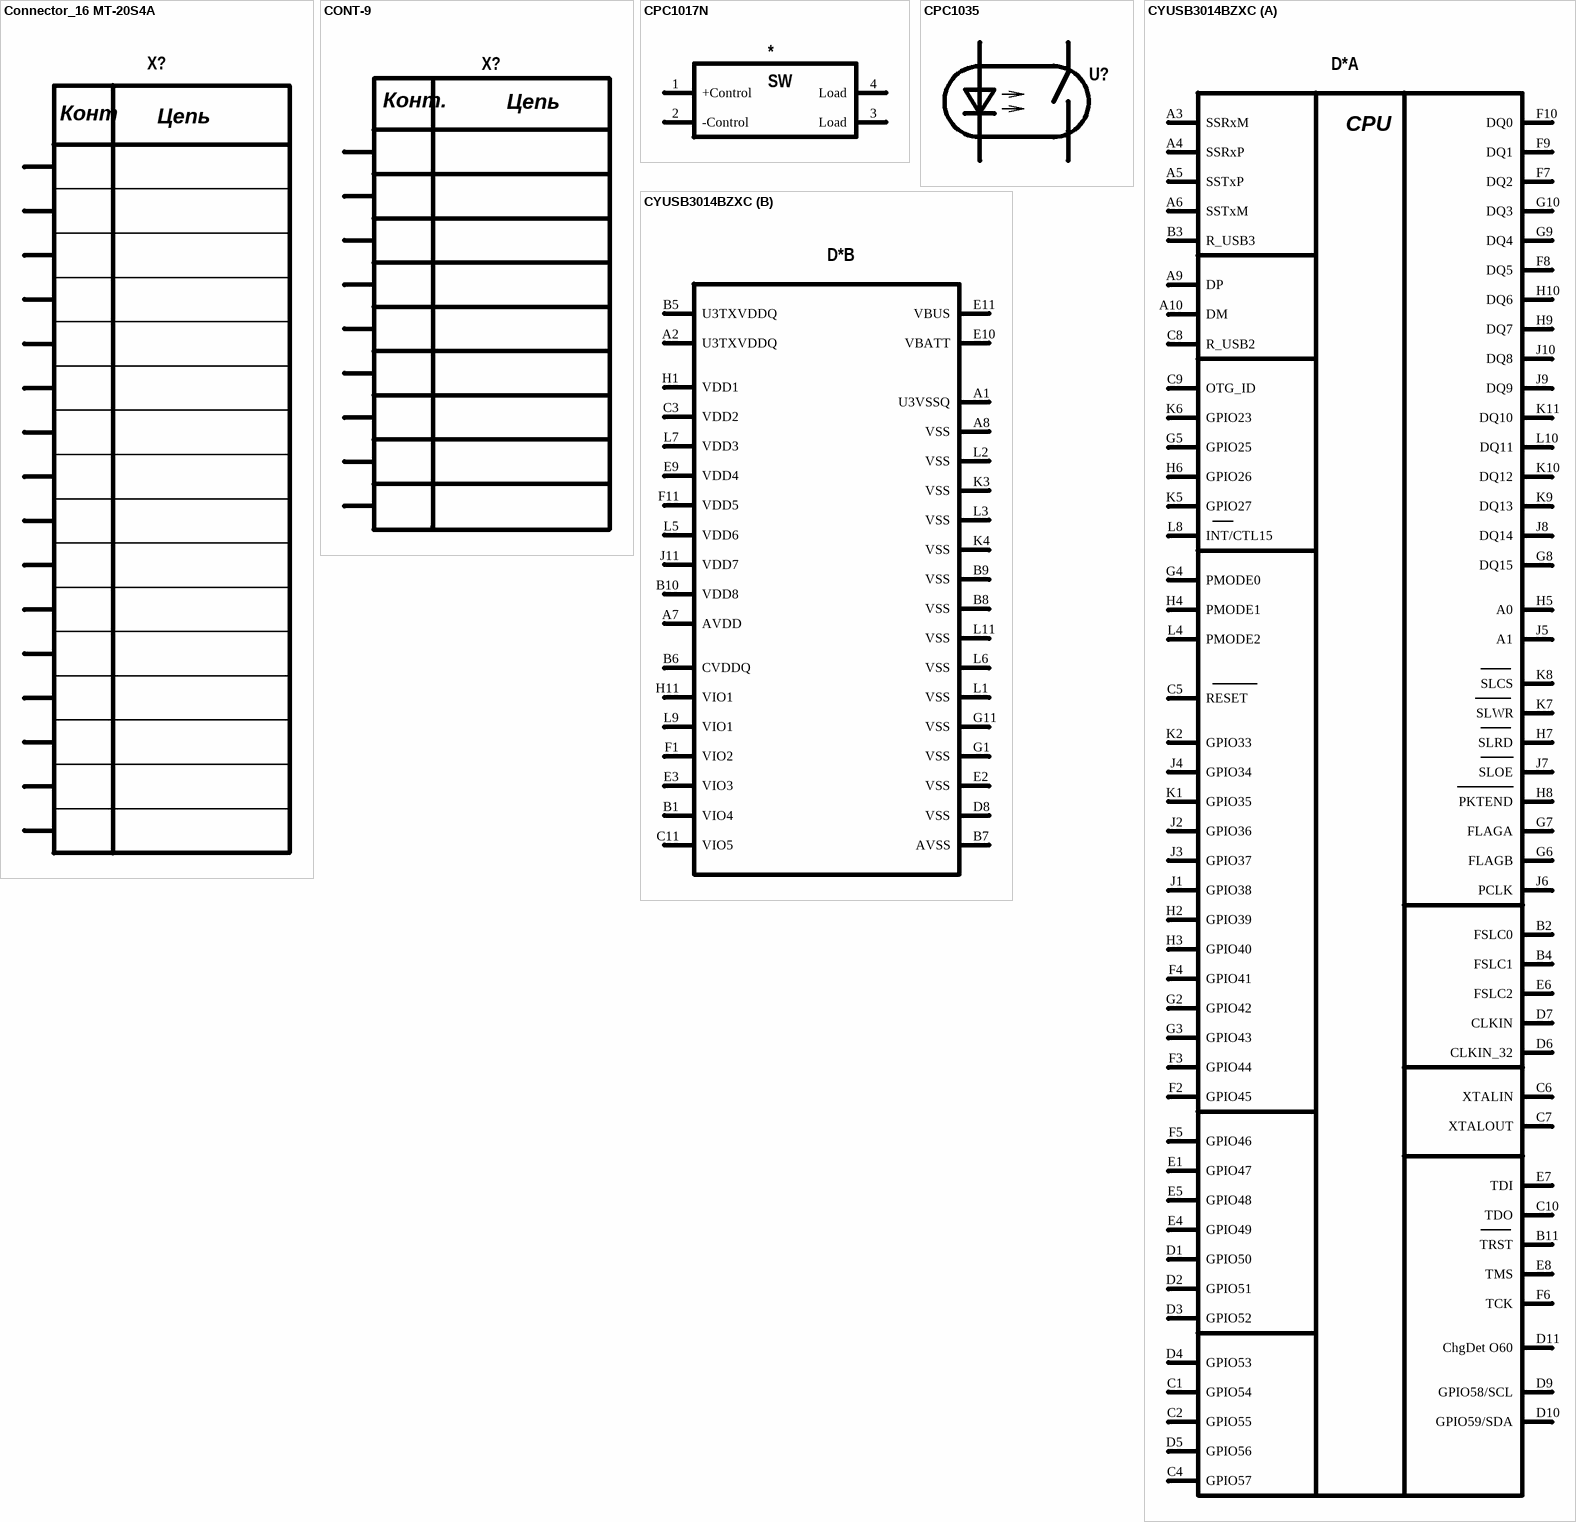
[diagram p6: symbols Connector_16 MT-20S4A to CYUSB3014BZXC]

## Connector_16 MT-20S4A
designator X?  (value not drawn)
Type: *; Value: *
pins: 1, 2, 3, 4, 5, 6, 7, 8, 9, 10, 11, 12, 13, 14, 15, 16
text: Конт; Цепь

## CONT-9
designator X?  (value not drawn)
Value: *
pins: 1, 2, 3, 4, 5, 6, 7, 8, 9
text: Конт.; Цепь

## CPC1017N
designator *  (value not drawn)
pins: 1 +Control, 2 -Control, 3 Load, 4 Load
text: SW

## CPC1035
designator U?  (value not drawn)
Opto Relay 35 Ohm 350 V; Vaue: CPC1035
footprint SOP-4 (Footprint not found)
pins: 1 A, 2 K, 3 E, 4 C

## CYUSB3014BZXC
designator D*  (value not drawn)
Value: CYUSB3014BZXC
footprint BGA121 (Footprint not found)
part A pins: A3 SSRxM, A4 SSRxP, A5 SSTxP, A6 SSTxM, A9 DP, A10 DM, B2 FSLC0, B3 R_USB3, B4 FSLC1, B11 TRST, C1 GPIO54, C2 GPIO55, C4 GPIO57, C5 RESET, C6 XTALIN, C7 XTALOUT, C8 R_USB2, C9 OTG_ID, C10 TDO, D1 GPIO50, D2 GPIO51, D3 GPIO52, D4 GPIO53, D5 GPIO56, D6 CLKIN_32, D7 CLKIN, D9 GPIO58/SCL, D10 GPIO59/SDA, D11 ChgDet O60, E1 GPIO47, E4 GPIO49, E5 GPIO48, E6 FSLC2, E7 TDI, E8 TMS, F2 GPIO45, F3 GPIO44, F4 GPIO41, F5 GPIO46, F6 TCK, F7 DQ2, F8 DQ5, F9 DQ1, F10 DQ0, G2 GPIO42, G3 GPIO43, G4 PMODE0, G5 GPIO25, G6 FLAGB, G7 FLAGA, G8 DQ15, G9 DQ4, G10 DQ3, H2 GPIO39, H3 GPIO40, H4 PMODE1, H5 A0, H6 GPIO26, H7 SLRD, H8 PKTEND, H9 DQ7, H10 DQ6, J1 GPIO38, J2 GPIO36, J3 GPIO37, J4 GPIO34, J5 A1, J6 PCLK, J7 SLOE, J8 DQ14, J9 DQ9, J10 DQ8, K1 GPIO35, K2 GPIO33, K5 GPIO27, K6 GPIO23, K7 SLWR, K8 SLCS, K9 DQ13, K10 DQ12, K11 DQ10, L4 PMODE2, L8 INT/CTL15, L10 DQ11
part B pins: A1 U3VSSQ, A2 U3TXVDDQ, A7 AVDD, A8 VSS, B1 VIO4, B5 U3TXVDDQ, B6 CVDDQ, B7 AVSS, B8 VSS, B9 VSS, B10 VDD8, C3 VDD2, C11 VIO5, D8 VSS, E2 VSS, E3 VIO3, E9 VDD4, E10 VBATT, E11 VBUS, F1 VIO2, F11 VDD5, G1 VSS, G11 VSS, H1 VDD1, H11 VIO1, J11 VDD7, K3 VSS, K4 VSS, L1 VSS, L2 VSS, L3 VSS, L5 VDD6, L6 VSS, L7 VDD3, L9 VIO1, L11 VSS
part A text: CPU

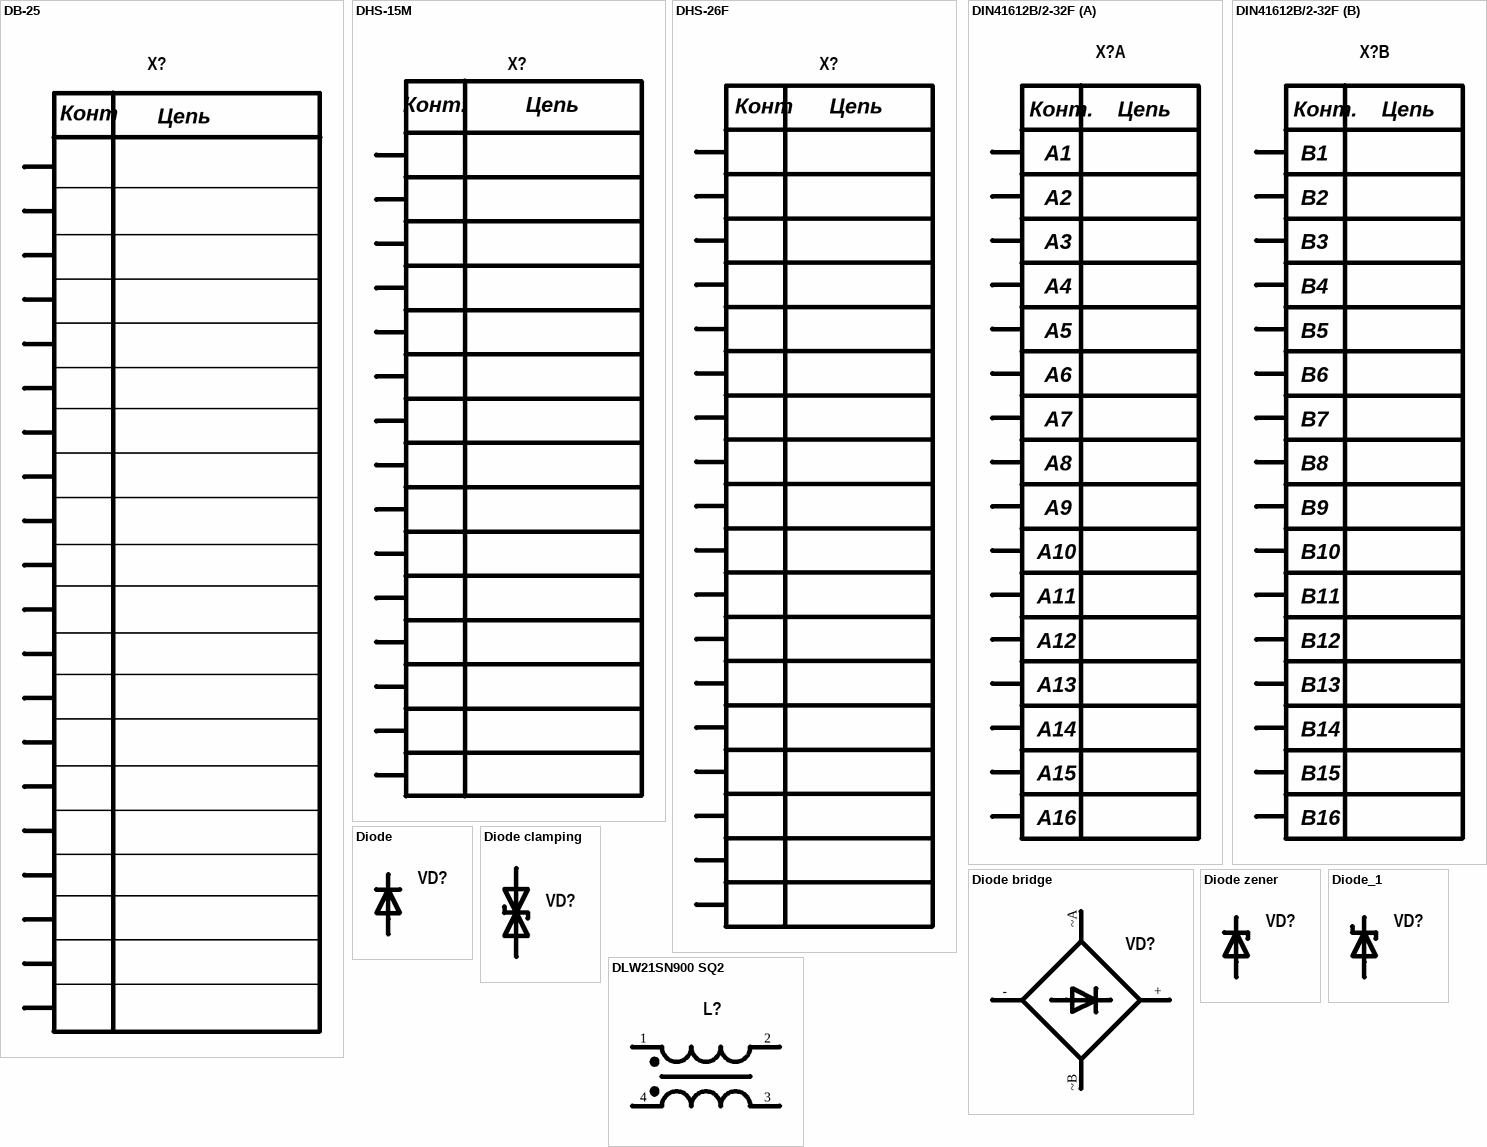
[diagram p7: symbols DB-25 to DLW21SN900 SQ2]

## DB-25
designator X?  (value not drawn)
Value: DB-25; Type: *
pins: 1, 2, 3, 4, 5, 6, 7, 8, 9, 10, 11, 12, 13, 14, 15, 16, 17, 19, 22, 24
text: Конт; Цепь

## DHS-15M
designator X?  Text1: Конт.  Text2: Цепь  (hidden comment: DHS-15M)
Value: DHS-15M
footprint PLD-2.0-16
footprint DHS-15M (Footprint not found)
pins: 1, 2, 3, 4, 5, 6, 7, 8, 9, 10, 11, 12, 13, 14, 15

## DHS-26F
designator X?  (value not drawn)
Value: DHS-26F
pins: 1, 2, 3, 4, 5, 6, 8, 9, 12, 13, 15, 16, 19, 20, 22, 23, 25, 26
text: Конт; Цепь

## DIN41612B/2-32F
designator X?  (value not drawn)
Value: DIN41612B/2-32F
footprint Model Name (Footprint not found)
part A pins: 1 A1, 2 A2, 3 A3, 4 A4, 5 A5, 6 A6, 7 A7, 8 A8, 9 A9, 10 A10, 11 A11, 12 A12, 13 A13, 14 A14, 15 A15, 16 A16
part B pins: 17 B1, 18 B2, 19 B3, 20 B4, 21 B5, 22 B6, 23 B7, 24 B8, 25 B9, 26 B10, 27 B11, 28 B12, 29 B13, 30 B14, 31 B15, 32 B16
part A text: Конт.; Цепь
part B text: Конт.; Цепь

## Diode
designator VD?  (value not drawn)
Diode; Value: *
pins: 1, 2

## Diode bridge
designator VD?, comment 2W10G-E4/51  (value not drawn)
Diode; Value: 2W10G-E4/51
pins: +, -, ~A 3, ~B 4

## Diode clamping
designator VD?  (value not drawn)
Clamping diode; Value: *
footprint DO-214AA (Footprint not found)
pins: 1, 2

## Diode zener
designator VD?  (value not drawn)
Diode zener; Value: *
pins: 1, 2

## Diode_1
designator VD?  (value not drawn)
Diode shottky; Value: *
pins: 1, 2

## DLW21SN900 SQ2
designator L?, comment DLW21SN900SO2  (value not drawn)
pins: 1, 2, 3, 4

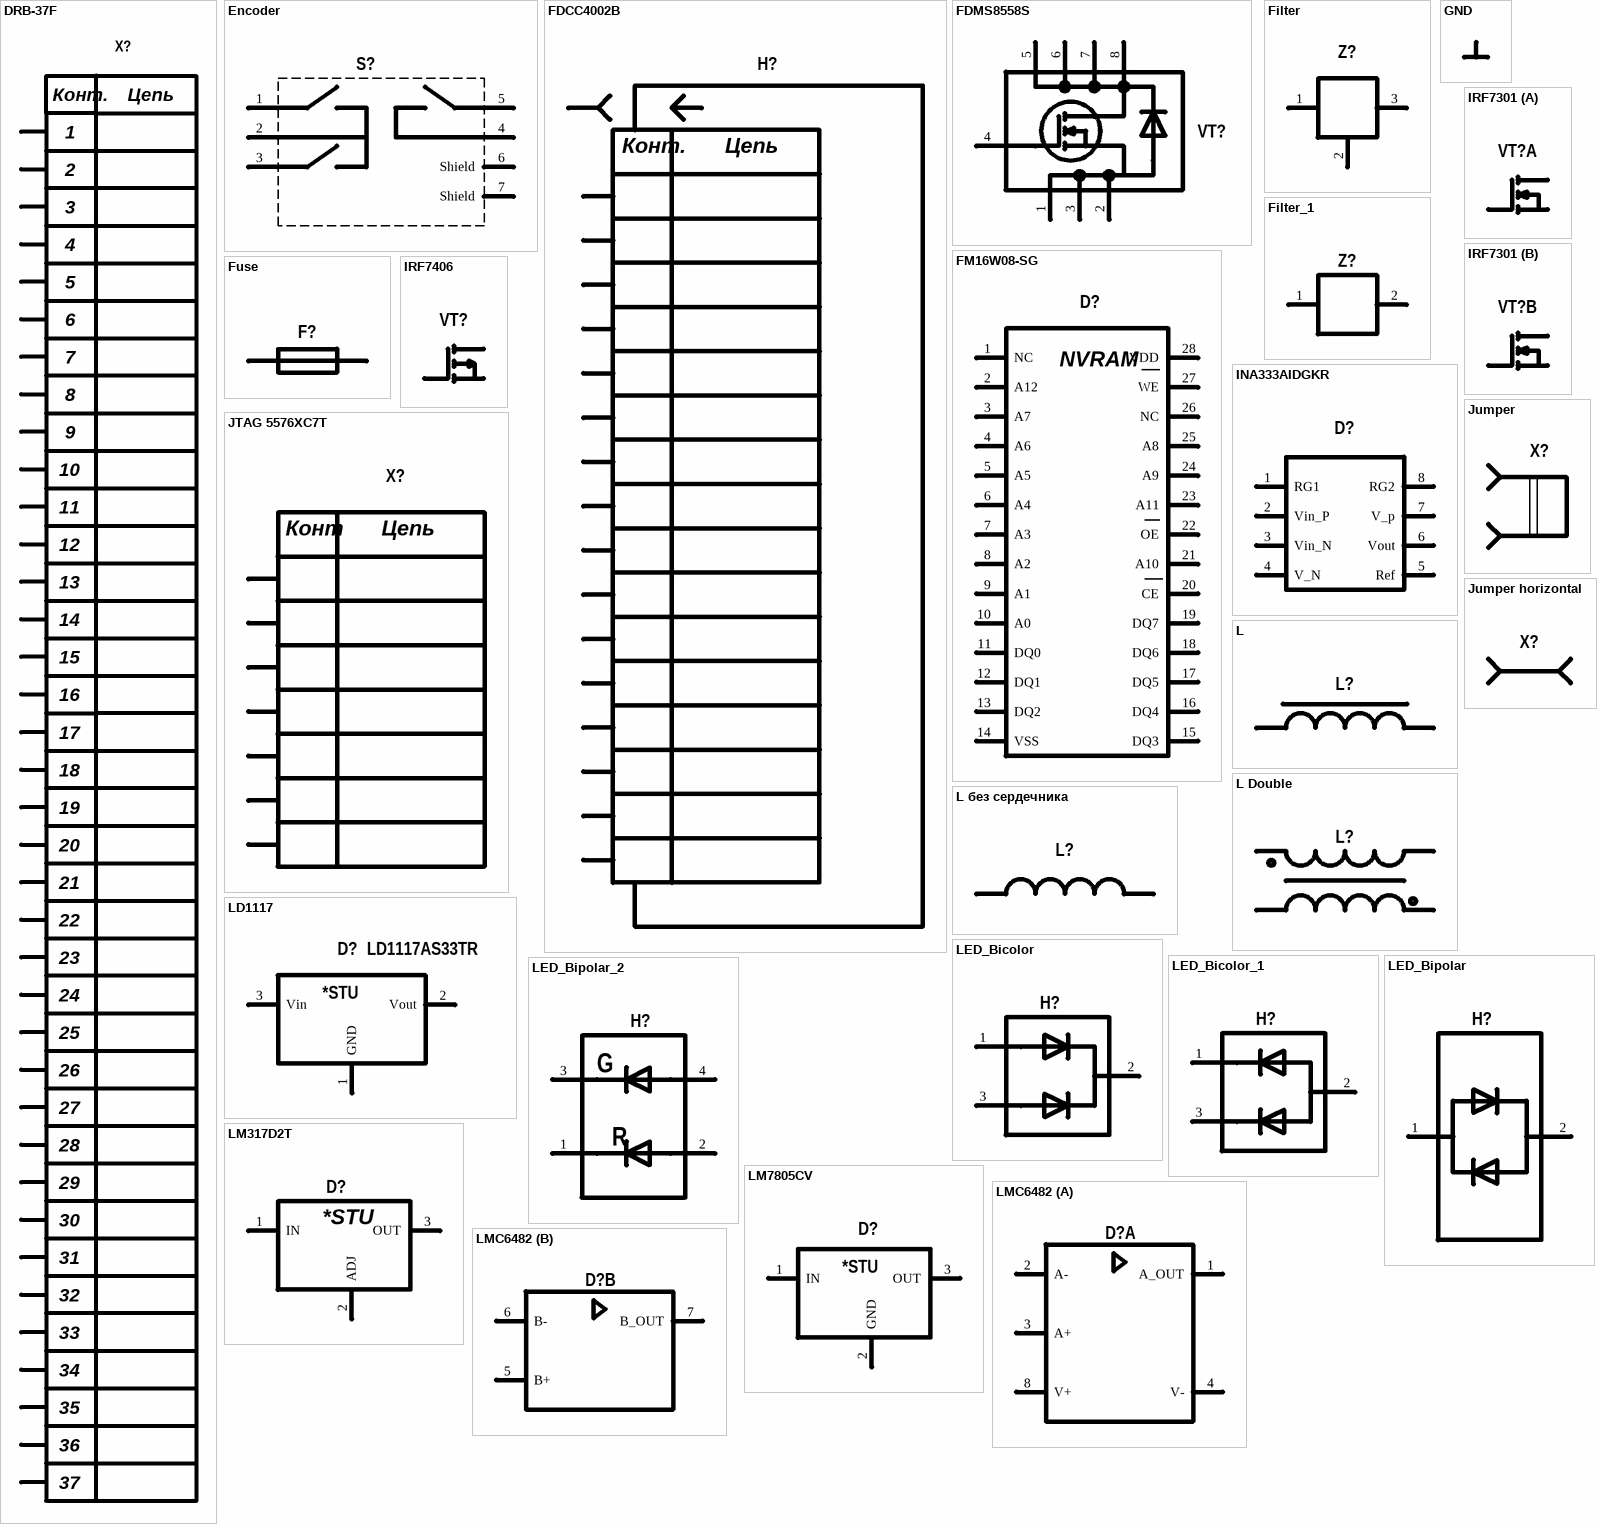
[diagram p8: symbols DRB-37F to LMC6482]

## DRB-37F
designator X?  (value not drawn)
Value: DRB-37F
pins: 1, 2, 3, 4, 5, 6, 7, 8, 9, 10, 11, 12, 13, 14, 15, 16, 17, 18, 19, 20, 21, 22, 23, 24, 25, 26, 27, 28, 29, 30, 31, 32, 33, 34, 35, 36, 37
text: Конт.; Цепь

## Encoder
designator S?  (value not drawn)
Type: *; Value: *
pins: 1 A, 2 COM, 3 B, 4 BTN2, 5 BTN1, 6 Shield, 7 Shield

## FDCC4002B
designator H?  (value not drawn)  (graphical)
Value: FDCC4002B; Производитель: Fordata electronic Co., LTD
pins: 1, 2, 3, 4, 5, 6, 7, 8, 9, 10, 11, 12, 13, 14, 15, 16
text: Конт.; Цепь

## FDMS8558S
designator VT?  (value not drawn)
MOSFET; Value: FDMS8558S
footprint PWFN08A (Footprint not found)
pins: 1 S, 2 S, 3 S, 4 G, 5 D, 6 D, 7 D, 8 D

## Filter
designator Z?, comment NFM21  (value not drawn)
Value: NFM21
footprint NFM21C
footprint NFM18C
pins: 1, 2, 3

## Filter_1
designator Z?, comment NFM21  (value not drawn)
Value: NFM21
footprint NFM21C
footprint NFM18C
pins: 1, 2

## FM16W08-SG
designator D?  (value not drawn)
Value: FM16W08-SG
footprint SOIC28 (Footprint not found)
pins: 1 NC, 2 A12, 3 A7, 4 A6, 5 A5, 6 A4, 7 A3, 8 A2, 9 A1, 10 A0, 11 DQ0, 12 DQ1, 13 DQ2, 14 VSS, 15 DQ3, 16 DQ4, 17 DQ5, 18 DQ6, 19 DQ7, 20 CE, 21 A10, 22 OE, 23 A11, 24 A9, 25 A8, 26 NC, 27 WE, 28 VDD
text: NVRAM

## Fuse
designator F?  (value not drawn)
Value: Держатель предохранителя 5х20
footprint FH (Footprint not found)
pins: 1, 2

## GND
designator *  (value not drawn)  (graphical)

## INA333AIDGKR
designator D?  (value not drawn)
Instrumantal amplifier; Value: INA333AIDGKR
footprint S-PDSO-G8 (Footprint not found)
pins: 1 RG1, 2 Vin_P, 3 Vin_N, 4 V_N, 5 Ref, 6 Vout, 7 V_p, 8 RG2

## IRF7301
designator VT?  (value not drawn)
Value: IRF7301
footprint SO-8_N (Footprint not found)
3D model SO-8 (PCB3D Model)
part A pins: 1, 2, 7, 8
part B pins: 3, 4, 5, 6

## IRF7406
designator VT?  (value not drawn)
Value: IRF7406
pins: 1 S, 2 D, 3 S, 4 G, 5 D, 6, 7, 7, 8

## JTAG 5576ХС7Т
designator X?, comment Вилка BH-10  (value not drawn)
Value: Вилка BH-10
footprint BH-10
pins: 1, 2, 3, 4, 5, 9, 10
text: Конт; Цепь

## Jumper
designator X?  (value not drawn)

## Jumper horizontal
designator X?, comment Джампер MJ-O-4,5  (value not drawn)  (mechanical)
Value: Джампер MJ-O-4,5

## L
designator L?, comment BLM18SG121TN1  (value not drawn)
Value: BLM18SG121TN1
footprint SDR0805
footprint CM45
footprint 1008CS
footprint SDR0603
pins: 1, 2

## L Double
designator L?  (value not drawn)
Value: *
footprint L Double (Footprint not found)
pins: 1, 2, 3, 4

## L без сердечника
designator L?, comment BLM18SG121TN1  (value not drawn)
Value: BLM18SG121TN1
footprint SDR0805
footprint CM45
footprint 1008CS
footprint SDR0603
footprint 0805
pins: 1, 2

## LD1117
designator D?, comment LD1117AS33TR
Value: LD1117AS33TR
pins: 1 GND, 2 Vout, 3 Vin
text: *STU

## LED_Bicolor
designator H?  (value not drawn)
pins: 1, 2, 3

## LED_Bicolor_1
designator H?  (value not drawn)
pins: 1, 2, 3

## LED_Bipolar
designator H?  (value not drawn)
pins: 1, 2

## LED_Bipolar_2
designator H?  (value not drawn)
Value: KAA-3528ESGC
pins: 1, 2, 3, 4
text: G; R

## LM317D2T
designator D?  (value not drawn)
Value: LM317D2T
footprint D2PAK (Footprint not found)
pins: 1 IN, 2 ADJ, 3 OUT
text: *STU

## LM7805CV
designator D?  (value not drawn)
Value: LM7805CV
footprint D2PAK (Footprint not found)
pins: 1 IN, 2 GND, 3 OUT
text: *STU

## LMC6482
designator D?, comment LMC6482AIM  (value not drawn)
Value: LMC6482AIM
part A pins: 1 A_OUT, 2 A-, 3 A+, 4 V-, 8 V+
part B pins: 5 B+, 6 B-, 7 B_OUT

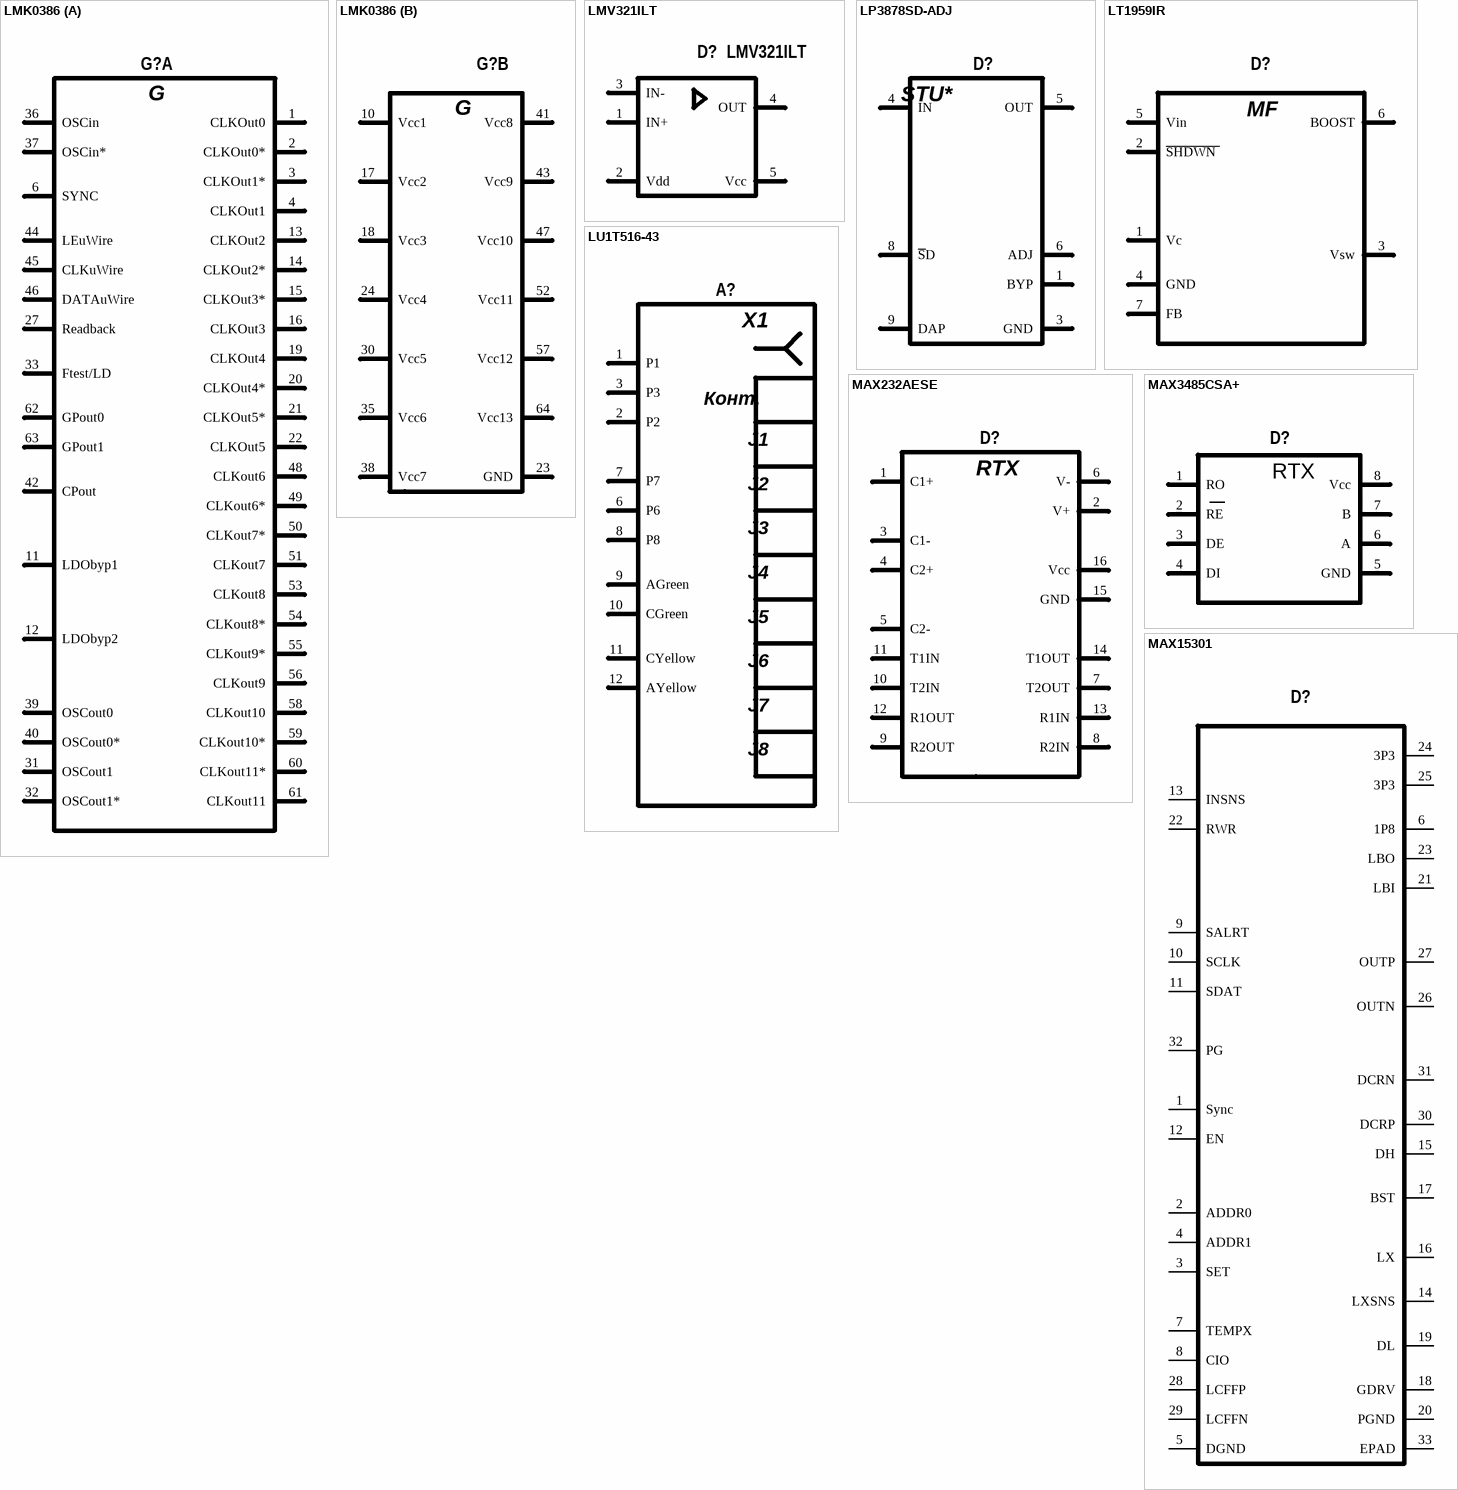
[diagram p9: symbols LMK0386 to MAX15301]

## LMK0386
designator G?, comment LMK03806BISQE/NOPB  (value not drawn)
Low Jitter PLL Clock Generator; Value: LMK03806BISQE/NOPB
footprint NKD0064A (Footprint not found)
part A pins: 1 CLKOut0, 2 CLKOut0*, 3 CLKOut1*, 4 CLKOut1, 6 SYNC, 11 LDObyp1, 12 LDObyp2, 13 CLKOut2, 14 CLKOut2*, 15 CLKOut3*, 16 CLKOut3, 19 CLKOut4, 20 CLKOut4*, 21 CLKOut5*, 22 CLKOut5, 27 Readback, 31 OSCout1, 32 OSCout1*, 33 Ftest/LD, 36 OSCin, 37 OSCin*, 39 OSCout0, 40 OSCout0*, 42 CPout, 44 LEuWire, 45 CLKuWire, 46 DATAuWire, 48 CLKout6, 49 CLKout6*, 50 CLKout7*, 51 CLKout7, 53 CLKout8, 54 CLKout8*, 55 CLKout9*, 56 CLKout9, 58 CLKout10, 59 CLKout10*, 60 CLKout11*, 61 CLKout11, 62 GPout0, 63 GPout1
part B pins: 10 Vcc1, 17 Vcc2, 18 Vcc3, 23 GND, 24 Vcc4, 30 Vcc5, 35 Vcc6, 38 Vcc7, 41 Vcc8, 43 Vcc9, 47 Vcc10, 52 Vcc11, 57 Vcc12, 64 Vcc13
part A text: G
part B text: G

## LMV321ILT
designator D?
Value: LMV321ILT
pins: 1 IN+, 2 Vdd, 3 IN-, 4 OUT, 5 Vcc

## LP3878SD-ADJ
designator D?  (value not drawn)
LDO Power; Value: LP3878SD-ADJ
pins: 1 BYP, 3 GND, 4 IN, 5 OUT, 6 ADJ, 8 ~{S}D, 9 DAP
text: STU*

## LT1959IR
designator D?  (value not drawn)
Value: LT1959IR
footprint DD-7 (Footprint not found)
pins: 1 Vc, 2 ~{SHDWN }, 3 Vsw, 4 GND, 5 Vin, 6 BOOST, 7 FB
text: MF

## LU1T516-43
designator A?, comment Модуль изоляционный LU1T516-43 LF  (value not drawn)
Value: Модуль изоляционный LU1T516-43 LF
footprint LU1T516-43 (Footprint not found)
pins: 1 P1, 2 P2, 3 P3, 6 P6, 7 P7, 8 P8, 9 AGreen, 10 CGreen, 11 CYellow, 12 AYellow
text: X1; Конт.; J1; J2; J3; J4; J5; J6; J7; J8

## MAX232AESE
designator D?  (value not drawn)
Value: MAX232AESE
footprint SO-16 (Footprint not found)
pins: 1 C1+, 2 V+, 3 C1-, 4 C2+, 5 C2-, 6 V-, 7 T2OUT, 8 R2IN, 9 R2OUT, 10 T2IN, 11 T1IN, 12 R1OUT, 13 R1IN, 14 T1OUT, 15 GND, 16 Vcc
text: RTX

## MAX3485CSA+
designator D?, comment MAX3485SCA+  (value not drawn)
Value: MAX3485SCA+
footprint SO-8 (Footprint not found)
pins: 1 RO, 2 RE, 3 DE, 4 DI, 5 GND, 6 A, 7 B, 8 Vcc
text: RTX

## MAX15301
designator D?, comment MAX15301AA01+CK  (value not drawn)
Value: MAX15301AA01+CK
footprint 90-0013 (Footprint not found)
pins: 1 Sync, 2 ADDR0, 3 SET, 4 ADDR1, 5 DGND, 6 1P8, 7 TEMPX, 8 CIO, 9 SALRT, 10 SCLK, 11 SDAT, 12 EN, 13 INSNS, 14 LXSNS, 15 DH, 16 LX, 17 BST, 18 GDRV, 19 DL, 20 PGND, 21 LBI, 22 RWR, 23 LBO, 24 3P3, 25 3P3, 26 OUTN, 27 OUTP, 28 LCFFP, 29 LCFFN, 30 DCRP, 31 DCRN, 32 PG, 33 EPAD

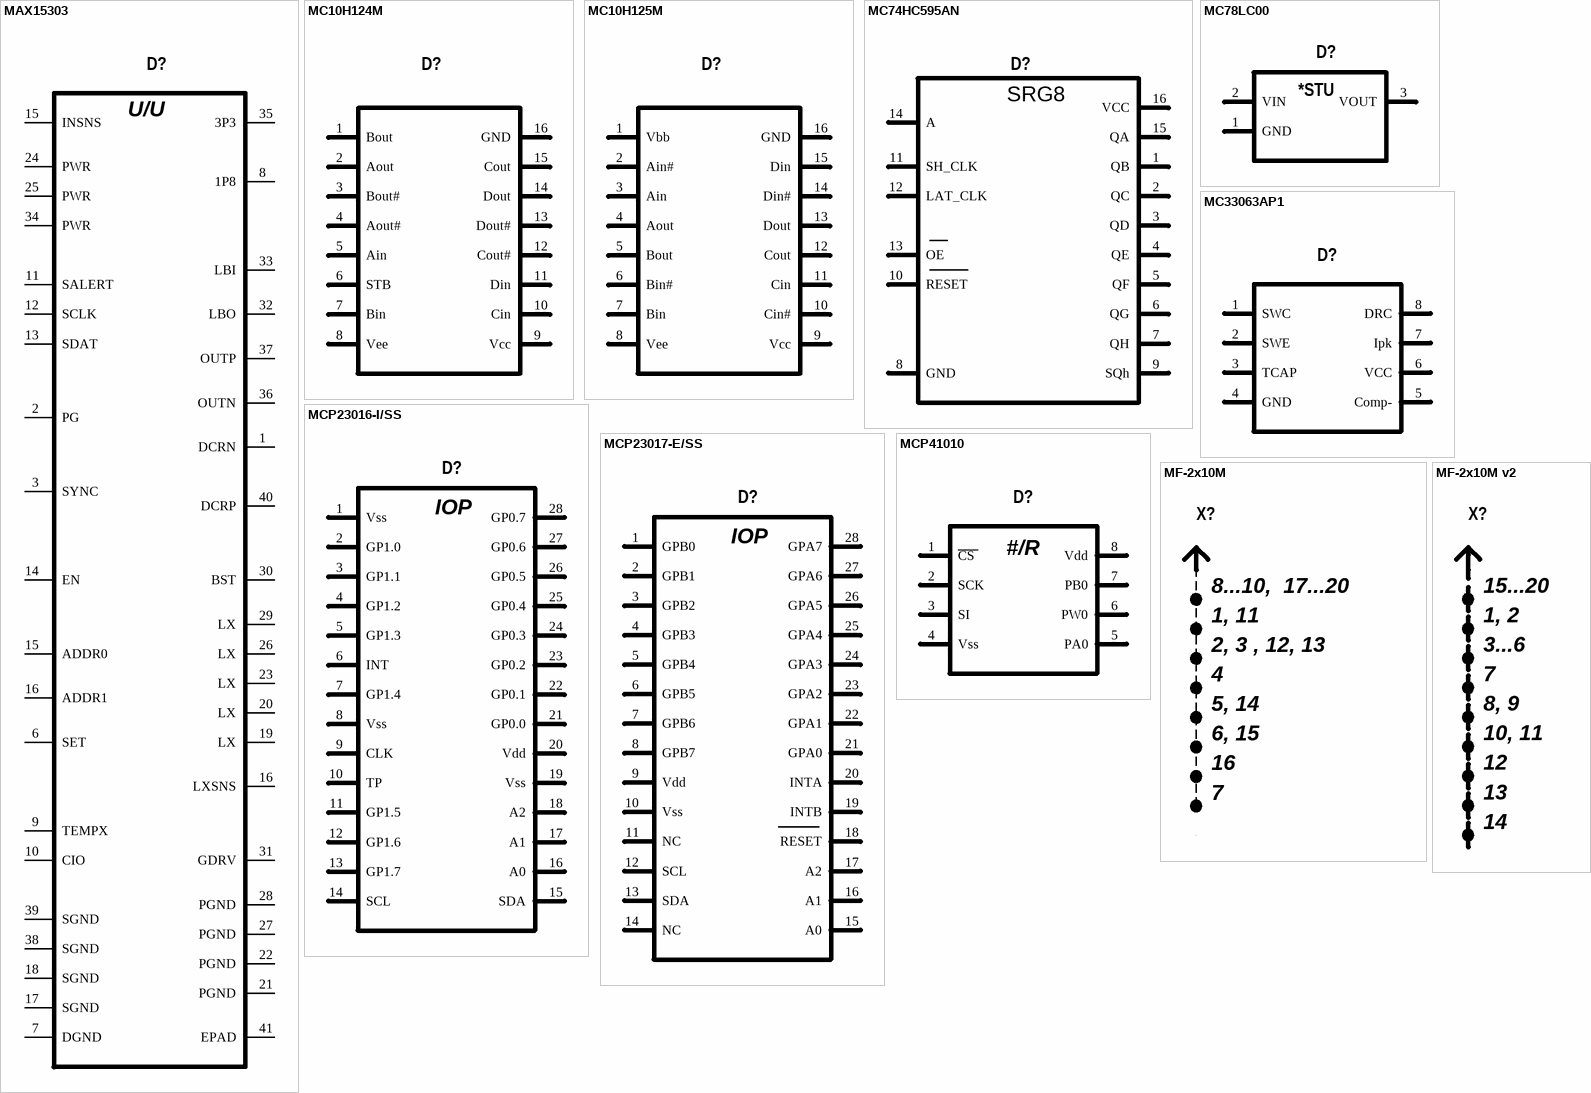
[diagram p10: symbols MAX15303 to MF-2x10M v2]

## MAX15303
designator D?, comment MAX15303AA00+CM  (value not drawn)
Value: MAX15303AA00+CM
footprint 90-0055 (Footprint not found)
pins: 1 DCRN, 2 PG, 3 SYNC, 6 SET, 7 DGND, 8 1P8, 9 TEMPX, 10 CIO, 11 SALERT, 12 SCLK, 13 SDAT, 14 EN, 15 INSNS, 15 ADDR0, 16 ADDR1, 16 LXSNS, 17 SGND, 18 SGND, 19 LX, 20 LX, 21 PGND, 22 PGND, 23 LX, 24 PWR, 25 PWR, 26 LX, 27 PGND, 28 PGND, 29 LX, 30 BST, 31 GDRV, 32 LBO, 33 LBI, 34 PWR, 35 3P3, 36 OUTN, 37 OUTP, 38 SGND, 39 SGND, 40 DCRP, 41 EPAD
text: U/U

## MC10H124M
designator D?  (value not drawn)
Value: MC10H124M
pins: 1 Bout, 2 Aout, 3 Bout#, 4 Aout#, 5 Ain, 6 STB, 7 Bin, 8 Vee, 9 Vcc, 10 Cin, 11 Din, 12 Cout#, 13 Dout#, 14 Dout, 15 Cout, 16 GND

## MC10H125M
designator D?  (value not drawn)
Value: MC10H125M
pins: 1 Vbb, 2 Ain#, 3 Ain, 4 Aout, 5 Bout, 6 Bin#, 7 Bin, 8 Vee, 9 Vcc, 10 Cin#, 11 Cin, 12 Cout, 13 Dout, 14 Din#, 15 Din, 16 GND

## MC74HC595AN
designator D?  (value not drawn)
Value: MC74HC595AN
pins: 1 QB, 2 QC, 3 QD, 4 QE, 5 QF, 6 QG, 7 QH, 8 GND, 9 SQh, 10 RESET, 11 SH_CLK, 12 LAT_CLK, 13 OE, 14 A, 15 QA, 16 VCC
text: SRG8

## MC78LC00
designator D?, comment MC78LC33NTRG  (value not drawn)
Value: MC78LC33NTRG
pins: 1 GND, 2 VIN, 3 VOUT
text: *STU

## MC33063AP1
designator D?  (value not drawn)
Value: MC33063AP1
pins: 1 SWC, 2 SWE, 3 TCAP, 4 GND, 5 Comp-, 6 VCC, 7 Ipk, 8 DRC

## MCP23016-I/SS
designator D?  (value not drawn)
Value: MCP23016-I/SS
footprint SSOP-28 (SSOP, Plastic; 28 Leads; Body Width 5.2 mm; Pitch 0.65 mm)
pins: 1 Vss, 2 GP1.0, 3 GP1.1, 4 GP1.2, 5 GP1.3, 6 INT, 7 GP1.4, 8 Vss, 9 CLK, 10 TP, 11 GP1.5, 12 GP1.6, 13 GP1.7, 14 SCL, 15 SDA, 16 A0, 17 A1, 18 A2, 19 Vss, 20 Vdd, 21 GP0.0, 22 GP0.1, 23 GP0.2, 24 GP0.3, 25 GP0.4, 26 GP0.5, 27 GP0.6, 28 GP0.7
text: IOP

## MCP23017-E/SS
designator D?  (value not drawn)
Value: MCP23017-E/SS
footprint SSOP-28 (SSOP, Plastic; 28 Leads; Body Width 5.2 mm; Pitch 0.65 mm)
pins: 1 GPB0, 2 GPB1, 3 GPB2, 4 GPB3, 5 GPB4, 6 GPB5, 7 GPB6, 8 GPB7, 9 Vdd, 10 Vss, 11 NC, 12 SCL, 13 SDA, 14 NC, 15 A0, 16 A1, 17 A2, 18 RESET, 19 INTB, 20 INTA, 21 GPA0, 22 GPA1, 23 GPA2, 24 GPA3, 25 GPA4, 26 GPA5, 27 GPA6, 28 GPA7
text: IOP

## MCP41010
designator D?, comment MCP41010-I/SN (10 кОм)  (value not drawn)
Value: MCP41010-I/SN (10 кОм)
footprint SOIC-8
pins: 1 ~{CS }, 2 SCK, 3 SI, 4 Vss, 5 PA0, 6 PW0, 7 PB0, 8 Vdd
text: #/R

## MF-2x10M
designator X?  (value not drawn)
Value: MF-2x10M
footprint 1-794311-1 (4.2mm & 4.4mm Centerline, 600 V, 9 A max. Dual Action)
pins: 1, 2, 3, 4, 5, 6, 7, 8, 9, 10, 11, 12, 13, 14, 15, 16, 17, 18, 19, 20
text: 8...10,  17...20; 1, 11; 2, 3 , 12, 13; 5, 14; 6, 15

## MF-2x10M v2
designator X?, comment MF-2x10M  (value not drawn)
Value: MF-2x10M
footprint 1-794311-1 (4.2mm & 4.4mm Centerline, 600 V, 9 A max. Dual Action)
pins: 1, 2, 3, 4, 5, 6, 7, 8, 9, 10, 11, 12, 13, 14, 15, 16, 17, 18, 19, 20
text: 15...20; 1, 2; 3...6; 8, 9; 10, 11

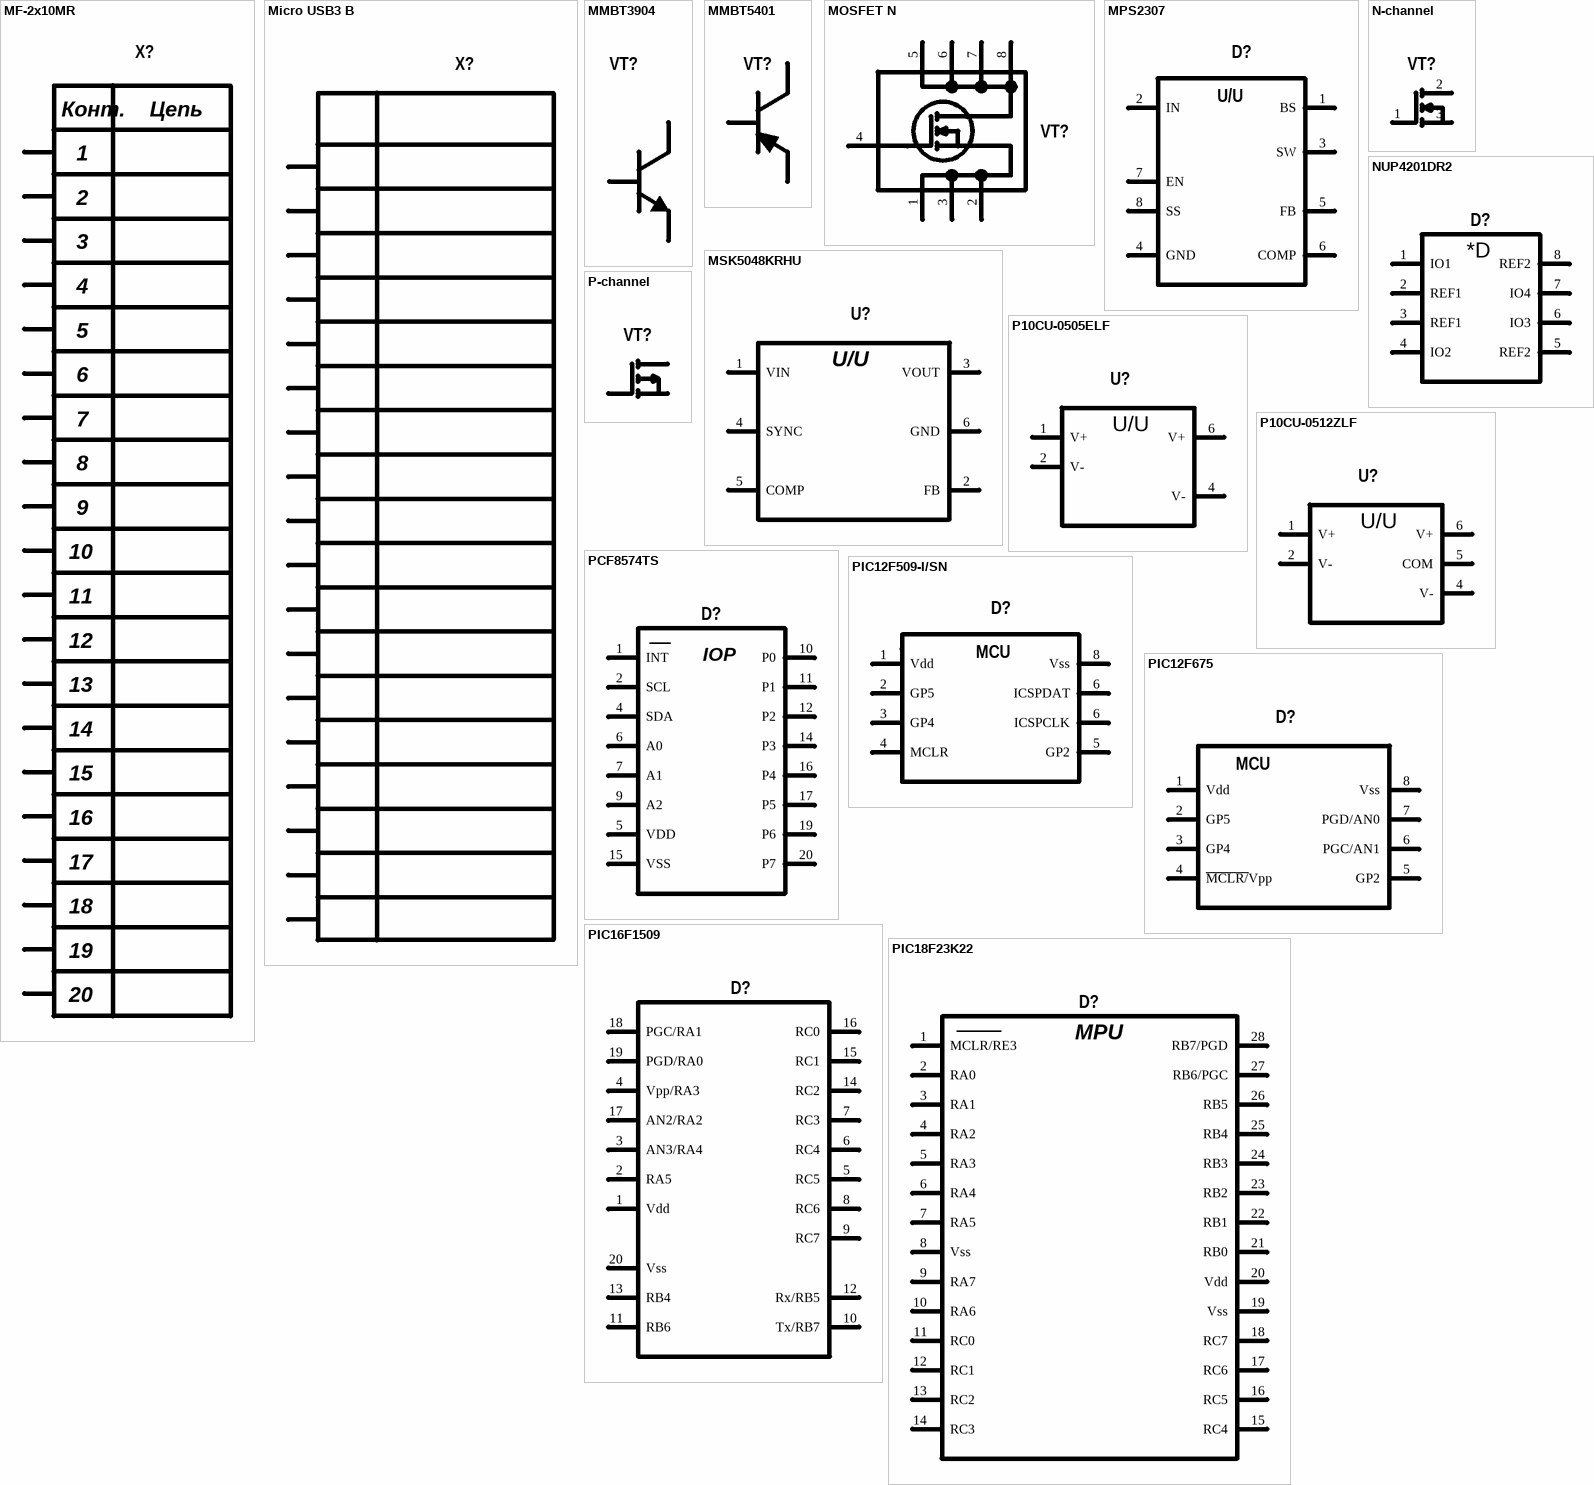
[diagram p11: symbols MF-2x10MR to PIC18F23K22]

## MF-2x10MR
designator X?  (value not drawn)
Value: MF-2x10MR
footprint 1-794311-1 (4.2mm & 4.4mm Centerline, 600 V, 9 A max. Dual Action)
pins: 1, 2, 3, 4, 5, 6, 7, 8, 9, 10, 11, 12, 13, 14, 15, 16, 17, 18, 19, 20
text: Конт.; Цепь

## Micro USB3 B
designator X?  (value not drawn)
Value: Розетка CMS1811-010010 (Micro USB3 B)
pins: 1, 2, 3, 4, 5, 6, 7, 8, 9, 10, 11, 12, 13, 14, 15, 16, 17, 18

## MMBT3904
designator VT?  (value not drawn)
pins: 1 E, 2 B, 3 C

## MMBT5401
designator VT?  (value not drawn)
pins: 1 E, 2 B, 3 C

## MOSFET N
designator VT?  (value not drawn)
Value: IRF1010N
footprint TO-220 (Footprint not found)
pins: 1 S, 2 D, 3 S, 4 G, 5 D, 6 D, 7 D, 8 D

## MPS2307
designator D?, comment MP2307DN  (value not drawn)
Value: MP2307DN
pins: 1 BS, 2 IN, 3 SW, 4 GND, 5 FB, 6 COMP, 7 EN, 8 SS
text: U/U

## MSK5048KRHU
designator U?, comment MSK5048KRHGW  (value not drawn)
Value: MSK5048KRHGW
pins: 1 VIN, 2 FB, 3 VOUT, 4 SYNC, 5 COMP, 6 GND
text: U/U

## N-channel
designator VT?  (value not drawn)
Value: *
pins: 1 G, 2 D, 3 S

## NUP4201DR2
designator D?  (value not drawn)
Value: NUP4201DR2
footprint SOIC8N_L (Footprint not found)
pins: 1 IO1, 2 REF1, 3 REF1, 4 IO2, 5 REF2, 6 IO3, 7 IO4, 8 REF2
text: *D

## P10CU-0505ELF
designator U?  (value not drawn)
Value: P10CU-0505ELF
footprint SIP4 (Footprint not found)
pins: 1 V+, 2 V-, 4 V-, 6 V+
text: U/U

## P10CU-0512ZLF
designator U?  (value not drawn)
Value: P10CU-0512ZLF
footprint SIP5 (Footprint not found)
pins: 1 V+, 2 V-, 4 V-, 5 COM, 6 V+
text: U/U

## P-channel
designator VT?  (value not drawn)
Value: *
pins: 1 G, 2 D, 3 S, 7

## PCF8574TS
designator D?  (value not drawn)
PCF8574; Value: PCF8574TS
footprint SSOP20 (Footprint not found)
pins: 1 INT, 2 SCL, 4 SDA (power), 5 VDD, 6 A0, 7 A1, 9 A2, 10 P0, 11 P1, 12 P2, 14 P3, 15 VSS, 16 P4, 17 P5, 19 P6, 20 P7
text: IOP

## PIC12F509-I/SN
designator D?  (value not drawn)
Value: PIC12F509-I/SN
pins: 1 Vdd, 2 GP5, 3 GP4, 4 MCLR, 5 GP2, 6 ICSPCLK, 6 ICSPDAT, 8 Vss
text: MCU

## PIC12F675
designator D?, comment PIC12F675-I/SN  (value not drawn)
Value: PIC12F675-I/SN
footprint SOIC127P600-8N
pins: 1 Vdd, 2 GP5, 3 GP4, 4 ~{MCLR/}Vpp, 5 GP2, 6 PGC/AN1, 7 PGD/AN0, 8 Vss
text: MCU

## PIC16F1509
designator D?, comment PIC16F1509-I/SO  (value not drawn)
Value: PIC16F1509-I/SO
footprint SO-20 (Footprint not found)
pins: 1 Vdd, 2 RA5, 3 AN3/RA4, 4 Vpp/RA3, 5 RC5, 6 RC4, 7 RC3, 8 RC6, 9 RC7, 10 Tx/RB7, 11 RB6, 12 Rx/RB5, 13 RB4, 14 RC2, 15 RC1, 16 RC0, 17 AN2/RA2, 18 PGC/RA1, 19 PGD/RA0, 20 Vss

## PIC18F23K22
designator D?, comment PIC18F23K22-I/SO  (value not drawn)
Производитель: Microchip; Value: PIC18F23K22-I/SO
footprint SO-28 (Footprint not found)
pins: 1 MCLR/RE3, 2 RA0, 3 RA1, 4 RA2, 5 RA3, 6 RA4, 7 RA5, 8 Vss, 9 RA7, 10 RA6, 11 RC0, 12 RC1, 13 RC2, 14 RC3, 15 RC4, 16 RC5, 17 RC6, 18 RC7, 19 Vss, 20 Vdd, 21 RB0, 22 RB1, 23 RB2, 24 RB3, 25 RB4, 26 RB5, 27 RB6/PGC, 28 RB7/PGD
text: MPU

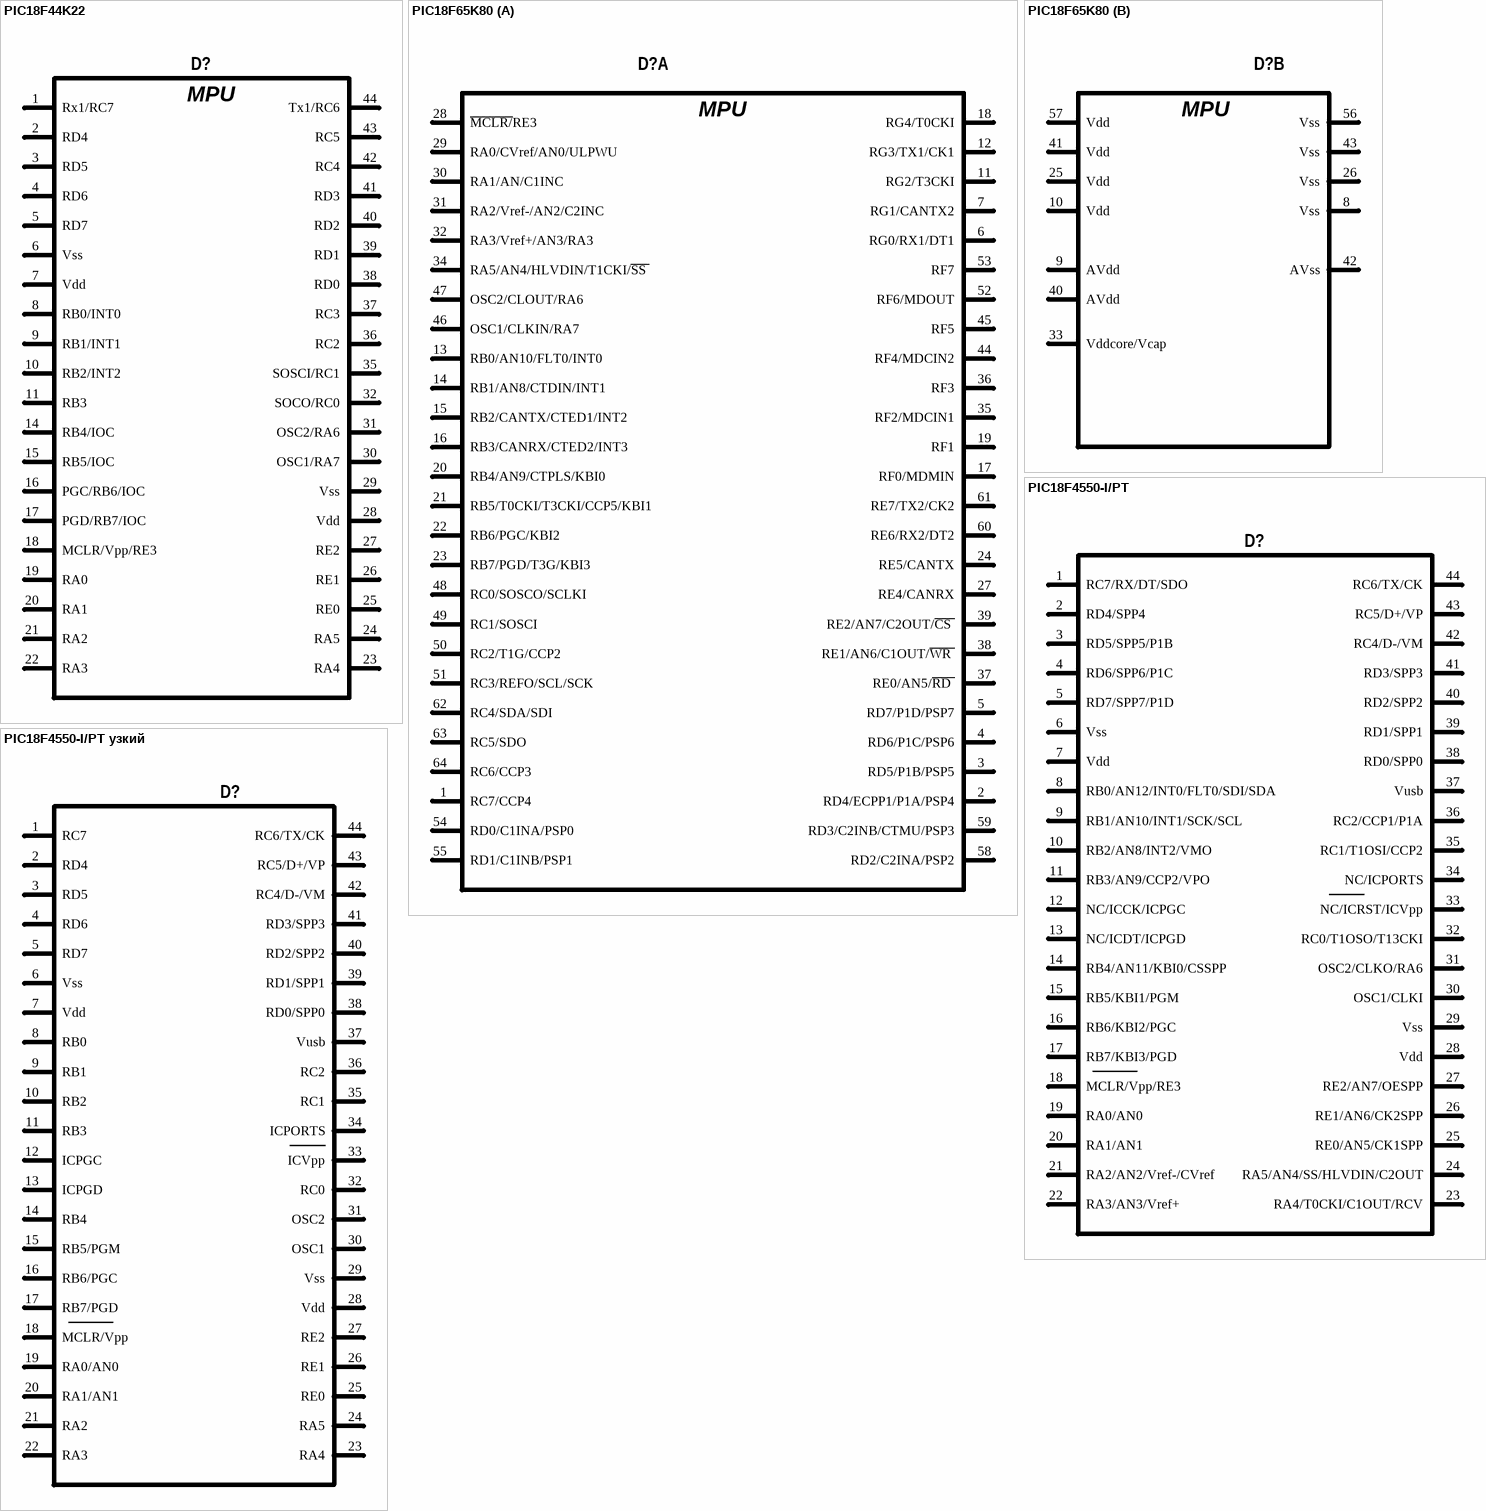
[diagram p12: symbols PIC18F44K22 to PIC18F4550-I/PT узкий]

## PIC18F44K22
designator D?, comment PIC18F44K22-I/SO  (value not drawn)
Производитель: Microchip; Value: PIC18F44K22-I/SO
footprint TQFP-44
pins: 1 Rx1/RC7, 2 RD4, 3 RD5, 4 RD6, 5 RD7, 6 Vss, 7 Vdd, 8 RB0/INT0, 9 RB1/INT1, 10 RB2/INT2, 11 RB3, 14 RB4/IOC, 15 RB5/IOC, 16 PGC/RB6/IOC, 17 PGD/RB7/IOC, 18 MCLR/Vpp/RE3, 19 RA0, 20 RA1, 21 RA2, 22 RA3, 23 RA4, 24 RA5, 25 RE0, 26 RE1, 27 RE2, 28 Vdd, 29 Vss, 30 OSC1/RA7, 31 OSC2/RA6, 32 SOCO/RC0, 35 SOSCI/RC1, 36 RC2, 37 RC3, 38 RD0, 39 RD1, 40 RD2, 41 RD3, 42 RC4, 43 RC5, 44 Tx1/RC6
text: MPU

## PIC18F65K80
designator D?, comment PIC18F65K80-I/PT  (value not drawn)
Производитель: Microchip; Value: PIC18F65K80-I/PT
footprint TQFP-64 (Footprint not found)
part A pins: 1 RC7/CCP4, 2 RD4/ECPP1/P1A/PSP4, 3 RD5/P1B/PSP5, 4 RD6/P1C/PSP6, 5 RD7/P1D/PSP7, 6 RG0/RX1/DT1, 7 RG1/CANTX2, 11 RG2/T3CKI, 12 RG3/TX1/CK1, 13 RB0/AN10/FLT0/INT0, 14 RB1/AN8/CTDIN/INT1, 15 RB2/CANTX/CTED1/INT2, 16 RB3/CANRX/CTED2/INT3, 17 RF0/MDMIN, 18 RG4/T0CKI, 19 RF1, 20 RB4/AN9/CTPLS/KBI0, 21 RB5/T0CKI/T3CKI/CCP5/KBI1, 22 RB6/PGC/KBI2, 23 RB7/PGD/T3G/KBI3, 24 RE5/CANTX, 27 RE4/CANRX, 28 ~{MCLR/}RE3, 29 RA0/CVref/AN0/ULPWU, 30 RA1/AN/C1INC, 31 RA2/Vref-/AN2/C2INC, 32 RA3/Vref+/AN3/RA3, 34 RA5/AN4/HLVDIN/T1CKI/~{SS }, 35 RF2/MDCIN1, 36 RF3, 37 RE0/AN5/~{RD }, 38 RE1/AN6/C1OUT/~{WR }, 39 RE2/AN7/C2OUT/~{CS }, 44 RF4/MDCIN2, 45 RF5, 46 OSC1/CLKIN/RA7, 47 OSC2/CLOUT/RA6, 48 RC0/SOSCO/SCLKI, 49 RC1/SOSCI, 50 RC2/T1G/CCP2, 51 RC3/REFO/SCL/SCK, 52 RF6/MDOUT, 53 RF7, 54 RD0/C1INA/PSP0, 55 RD1/C1INB/PSP1, 58 RD2/C2INA/PSP2, 59 RD3/C2INB/CTMU/PSP3, 60 RE6/RX2/DT2, 61 RE7/TX2/CK2, 62 RC4/SDA/SDI, 63 RC5/SDO, 64 RC6/CCP3
part B pins: 8 Vss, 9 AVdd, 10 Vdd, 25 Vdd, 26 Vss, 33 Vddcore/Vcap, 40 AVdd, 41 Vdd, 42 AVss, 43 Vss, 56 Vss, 57 Vdd
part A text: MPU
part B text: MPU

## PIC18F4550-I/PT
designator D?
Value: PIC18F4550-I/PT
footprint TQFP-44
pins: 1 RC7/RX/DT/SDO, 2 RD4/SPP4, 3 RD5/SPP5/P1B, 4 RD6/SPP6/P1C, 5 RD7/SPP7/P1D, 6 Vss (power), 7 Vdd (power), 8 RB0/AN12/INT0/FLT0/SDI/SDA, 9 RB1/AN10/INT1/SCK/SCL, 10 RB2/AN8/INT2/VMO, 11 RB3/AN9/CCP2/VPO, 12 NC/ICCK/ICPGC, 13 NC/ICDT/ICPGD, 14 RB4/AN11/KBI0/CSSPP, 15 RB5/KBI1/PGM, 16 RB6/KBI2/PGC, 17 RB7/KBI3/PGD, 18 MCLR/Vpp/RE3, 19 RA0/AN0, 20 RA1/AN1, 21 RA2/AN2/Vref-/CVref, 22 RA3/AN3/Vref+, 23 RA4/T0CKI/C1OUT/RCV, 24 RA5/AN4/SS/HLVDIN/C2OUT, 25 RE0/AN5/CK1SPP, 26 RE1/AN6/CK2SPP, 27 RE2/AN7/OESPP, 28 Vdd (power), 29 Vss (power), 30 OSC1/CLKI, 31 OSC2/CLKO/RA6, 32 RC0/T1OSO/T13CKI, 33 NC/ICRST/ICVpp, 34 NC/ICPORTS, 35 RC1/T1OSI/CCP2, 36 RС2/CCP1/P1A, 37 Vusb, 38 RD0/SPP0, 39 RD1/SPP1, 40 RD2/SPP2, 41 RD3/SPP3, 42 RC4/D-/VM, 43 RC5/D+/VP, 44 RC6/TX/CK

## PIC18F4550-I/PT узкий
designator D?
Value: PIC18F4550-I/PT
footprint TQFP-44
pins: 1 RC7, 2 RD4, 3 RD5, 4 RD6, 5 RD7, 6 Vss (power), 7 Vdd (power), 8 RB0, 9 RB1, 10 RB2, 11 RB3, 12 ICPGC, 13 ICPGD, 14 RB4, 15 RB5/PGM, 16 RB6/PGC, 17 RB7/PGD, 18 MCLR/Vpp, 19 RA0/AN0, 20 RA1/AN1, 21 RA2, 22 RA3, 23 RA4, 24 RA5, 25 RE0, 26 RE1, 27 RE2, 28 Vdd (power), 29 Vss (power), 30 OSC1, 31 OSC2, 32 RC0, 33 ICVpp, 34 ICPORTS, 35 RC1, 36 RС2, 37 Vusb, 38 RD0/SPP0, 39 RD1/SPP1, 40 RD2/SPP2, 41 RD3/SPP3, 42 RC4/D-/VM, 43 RC5/D+/VP, 44 RC6/TX/CK

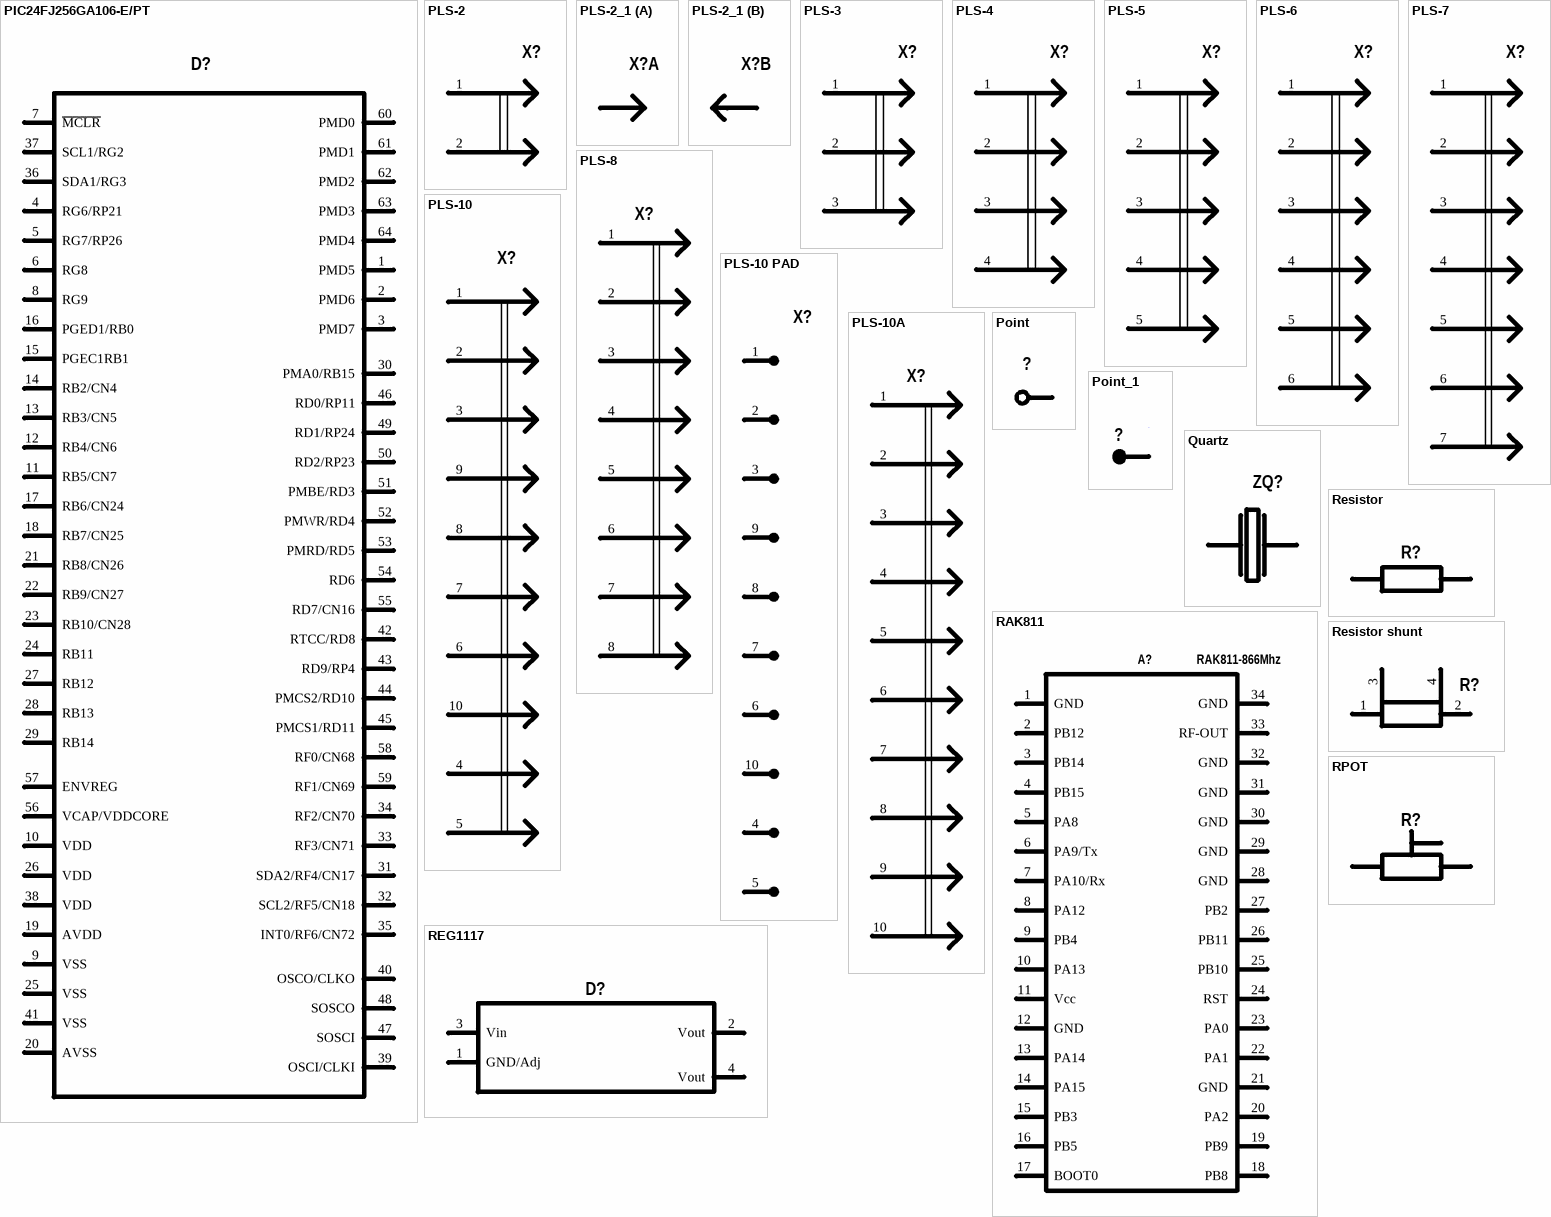
[diagram p13: symbols PIC24FJ256GA106-E/PT to RPOT]

## PIC24FJ256GA106-E/PT
designator D?  (value not drawn)
General Purpose 16-Bit Flash Microcontroller, 256KB Flash, 16KB SRAM, 64-Pin TQFP, Extended Temperature; Value: PIC24FJ256GA106-E/PT-ND
footprint TQFP-PT64_N (Thin QFP, 64-Leads, Body 10x10mm, Pitch 0.5mm, IPC Medium Density)
footprint TQFP-PT64_L (Thin QFP, 64-Leads, Body 10x10mm, Pitch 0.5mm, IPC High Density)
footprint TQFP-PT64_M (Thin QFP, 64-Leads, Body 10x10mm, Pitch 0.5mm, IPC Low Density)
pins: 1 PMD5 (hiz), 2 PMD6 (hiz), 3 PMD7 (hiz), 4 RG6/RP21 (hiz), 5 RG7/RP26 (hiz), 6 RG8 (hiz), 7 ~{MCLR} (hiz), 8 RG9 (hiz), 9 VSS (hiz), 10 VDD (power), 11 RB5/CN7 (hiz), 12 RB4/CN6 (hiz), 13 RB3/CN5 (hiz), 14 RB2/CN4 (hiz), 15 PGEC1RB1 (hiz), 16 PGED1/RB0 (hiz), 17 RB6/CN24 (hiz), 18 RB7/CN25 (hiz), 19 AVDD (hiz), 20 AVSS (hiz), 21 RB8/CN26 (hiz), 22 RB9/CN27 (hiz), 23 RB10/CN28 (hiz), 24 RB11 (hiz), 25 VSS (hiz), 26 VDD (hiz), 27 RB12 (hiz), 28 RB13 (hiz), 29 RB14 (hiz), 30 PMA0/RB15 (hiz), 31 SDA2/RF4/CN17 (hiz), 32 SCL2/RF5/CN18 (hiz), 33 RF3/CN71 (hiz), 34 RF2/CN70 (hiz), 35 INT0/RF6/CN72 (hiz), 36 SDA1/RG3 (hiz), 37 SCL1/RG2 (hiz), 38 VDD (hiz), 39 OSCI/CLKI (hiz), 40 OSCO/CLKO (hiz), 41 VSS (hiz), 42 RTCC/RD8 (hiz), 43 RD9/RP4 (hiz), 44 PMCS2/RD10 (hiz), 45 PMCS1/RD11 (hiz), 46 RD0/RP11 (hiz), 47 SOSCI (hiz), 48 SOSCO (hiz), 49 RD1/RP24 (hiz), 50 RD2/RP23 (hiz), 51 PMBE/RD3 (hiz), 52 PMWR/RD4 (hiz), 53 PMRD/RD5 (hiz), 54 RD6 (hiz), 55 RD7/CN16 (hiz), 56 VCAP/VDDCORE (hiz), 57 ENVREG (hiz), 58 RF0/CN68 (hiz), 59 RF1/CN69 (hiz), 60 PMD0 (hiz), 61 PMD1 (hiz), 62 PMD2 (hiz), 63 PMD3 (hiz), 64 PMD4 (hiz)

## PLS-2
designator X?, comment Соединитель штыревой PLS-2  (value not drawn)
Value: Соединитель штыревой PLS-2
footprint PLS-2.54-2
pins: 1, 2

## PLS-2_1
designator X?, comment Соединитель штыревой PLS-2  (value not drawn)
Value: Соединитель штыревой PLS-2
footprint PLS-2.54-2
part A pins: 1
part B pins: 2

## PLS-3
designator X?, comment Соединитель штыревой PLS-3  (value not drawn)
Value: Соединитель штыревой PLS-3
footprint PLS-2.54-3
pins: 1, 2, 3

## PLS-4
designator X?, comment Соединитель штыревой PLS-4  (value not drawn)
Value: Соединитель штыревой PLS-4
footprint PLS-2.54-4
pins: 1, 2, 3, 4

## PLS-5
designator X?, comment Соединитель штыревой PLS-5  (value not drawn)
Value: Соединитель штыревой PLS-5
footprint PLS-2.54-5
pins: 1, 2, 3, 4, 5

## PLS-6
designator X?, comment Соединитель штыревой PLS-6  (value not drawn)
Value: Соединитель штыревой PLS-6
footprint PLS-2.54-6 (Footprint not found)
pins: 1, 2, 3, 4, 5, 6

## PLS-7
designator X?, comment Соединитель штыревой PLS-7  (value not drawn)
Value: Соединитель штыревой PLS-7
footprint PLS-2.54-7
pins: 1, 2, 3, 4, 5, 6, 7

## PLS-8
designator X?, comment Соедениель штыревой PLS-8  (value not drawn)
Value: Соедениель штыревой PLS-8
footprint PLS-2.54-8 (Footprint not found)
pins: 1, 2, 3, 4, 5, 6, 7, 8

## PLS-10
designator X?, comment Соединитель штыревой PLS-10  (value not drawn)
Value: Соединитель штыревой PLS-10
footprint PLS-2.54-10R (Footprint not found)
pins: 1, 2, 3, 4, 5, 6, 7, 8, 9, 10

## PLS-10 PAD
designator X?, comment Соединитель штыревой PLS-10  (value not drawn)
Value: Соединитель штыревой PLS-10
footprint PLS-2.54-10R (Footprint not found)
pins: 1, 2, 3, 4, 5, 6, 7, 8, 9, 10

## PLS-10A
designator X?, comment Соеденитель штыревой PLD-10  (value not drawn)
Value: Соеденитель штыревой PLD-10
footprint PLD-2.54-10
pins: 1, 2, 3, 4, 5, 6, 7, 8, 9, 10

## Point
designator ?  (value not drawn)
footprint PadRound (Pad Round)
pins: 1

## Point_1
designator ?  (value not drawn)
footprint PadRound (Pad Round)
pins: 1

## Quartz
designator ZQ?, comment Резонатор кварцевый GSX49-4/351DF 4 MHz  (value not drawn)
Value: Резонатор кварцевый GSX49-4/351DF 4 MHz
footprint GSX49-4 (SM Crystal)
pins: 1, 2

## RAK811
designator A?, comment RAK811-866Mhz
Value: RAK811-866Mhz
pins: 1 GND, 2 PB12, 3 PB14, 4 PB15, 5 PA8, 6 PA9/Tx, 7 PA10/Rx, 8 PA12, 9 PB4, 10 PA13, 11 Vcc, 12 GND, 13 PA14, 14 PA15, 15 PB3, 16 PB5, 17 BOOT0, 18 PB8, 19 PB9, 20 PA2, 21 GND, 22 PA1, 23 PA0, 24 RST, 25 PB10, 26 PB11, 27 PB2, 28 GND, 29 GND, 30 GND, 31 GND, 32 GND, 33 RF-OUT, 34 GND

## REG1117
designator D?  (value not drawn)
Value: REG1117
footprint DDPAK
pins: 1 GND/Adj, 2 Vout, 3 Vin, 4 Vout

## Resistor
designator R?  (value not drawn)
Value: *
footprint 0402
footprint 0603
footprint 0805
footprint C2-23-0,25
footprint 1206
footprint 0402_min
pins: 1, 2

## Resistor shunt
designator R?  (value not drawn)
Value: *
footprint 0402
footprint 0603
footprint 0805
footprint C2-23-0,25
footprint 1206
footprint 0402_min
pins: 1, 2, 3, 4

## RPOT
designator R?  (value not drawn)
footprint RPOT (Footprint not found)
pins: 1, 2, 3

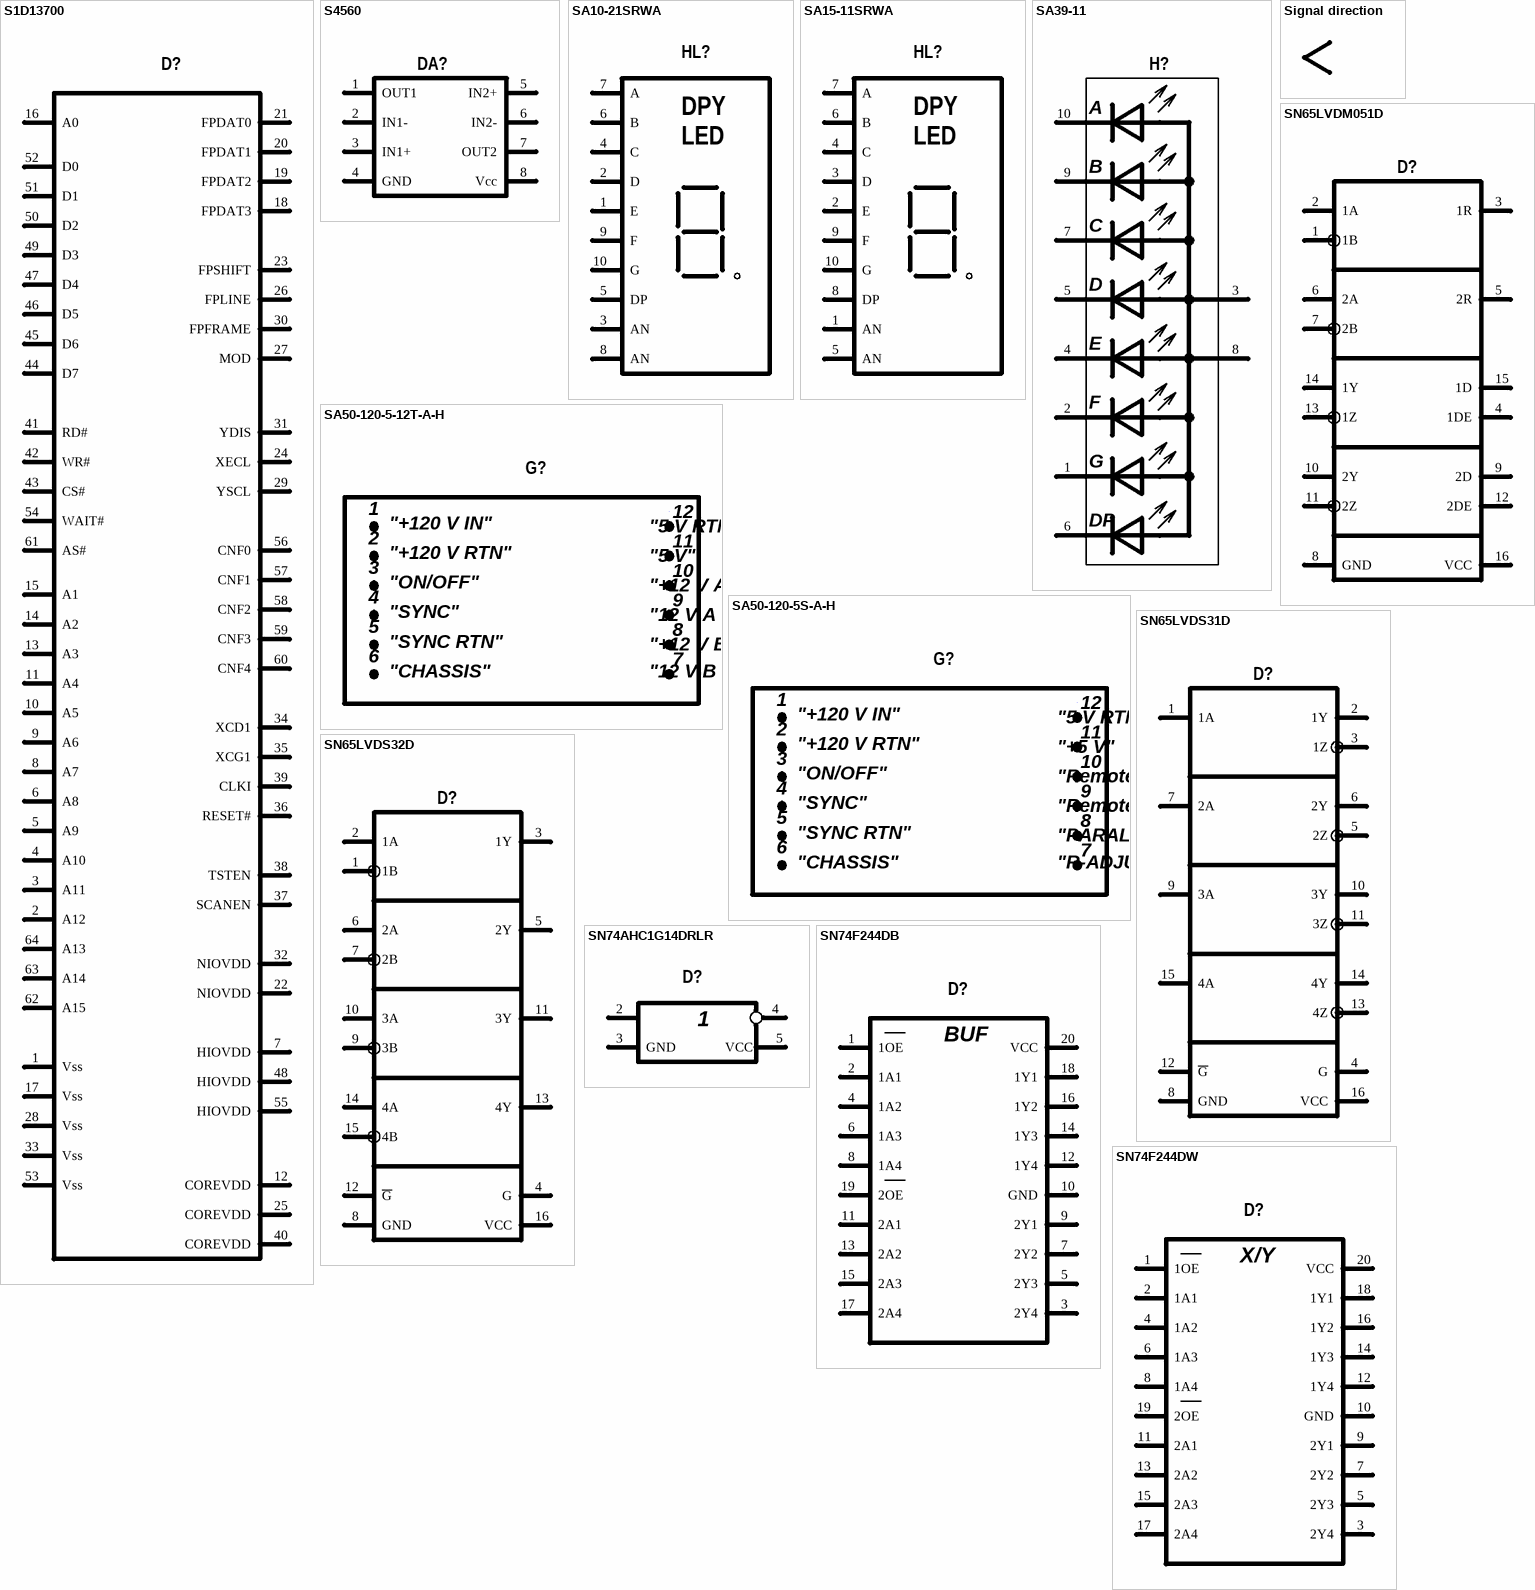
[diagram p14: symbols S1D13700 to SN74F244DW]

## S1D13700
designator D?  (value not drawn)
Value: S1D13700
footprint TQFP13-64 (Footprint not found)
pins: 1 Vss, 2 A12, 3 A11, 4 A10, 5 A9, 6 A8, 7 HIOVDD, 8 A7, 9 A6, 10 A5, 11 A4, 12 COREVDD, 13 A3, 14 A2, 15 A1, 16 A0, 17 Vss, 18 FPDAT3, 19 FPDAT2, 20 FPDAT1, 21 FPDAT0, 22 NIOVDD, 23 FPSHIFT, 24 XECL, 25 COREVDD, 26 FPLINE, 27 MOD, 28 Vss, 29 YSCL, 30 FPFRAME, 31 YDIS, 32 NIOVDD, 33 Vss, 34 XCD1, 35 XCG1, 36 RESET#, 37 SCANEN, 38 TSTEN, 39 CLKI, 40 COREVDD, 41 RD#, 42 WR#, 43 CS#, 44 D7, 45 D6, 46 D5, 47 D4, 48 HIOVDD, 49 D3, 50 D2, 51 D1, 52 D0, 53 Vss, 54 WAIT#, 55 HIOVDD, 56 CNF0, 57 CNF1, 58 CNF2, 59 CNF3, 60 CNF4, 61 AS#, 62 A15, 63 A14, 64 A13

## S4560
designator DA?  (value not drawn)
Value: S4560
footprint SO-8_N
pins: 1 OUT1, 2 IN1-, 3 IN1+, 4 GND, 5 IN2+, 6 IN2-, 7 OUT2, 8 Vcc

## SA10-21SRWA
designator HL?  (value not drawn)
Value: SA10-21SRWA
pins: 1 E, 2 D, 3 AN, 4 C, 5 DP, 6 B, 7 A, 8 AN, 9 F, 10 G
text: DPY; LED

## SA15-11SRWA
designator HL?  (value not drawn)
Value: SA15-11SRWA
pins: 1 AN, 2 E, 3 D, 4 C, 5 AN, 6 B, 7 A, 8 DP, 9 F, 10 G
text: DPY; LED

## SA39-11
designator H?  (value not drawn)
Value: SA39-11
footprint SA39-11 (Footprint not found)
pins: 1, 2, 3, 4, 5, 6, 7, 8, 9, 10
text: A; B; C; D; E; F; G; DP

## SA50-120-5-12T-A-H
designator G?  (value not drawn)  (graphical)
Производитель: Microsemi; Value: SA50-120-5-12T-A-H
pins: 1, 2, 3, 4, 5, 6, 7, 8, 9, 10, 11, 12
text: "+120 V IN"; "5 V RTN"; "+120 V RTN"; "5 V"; "ON/OFF"; "+12 V A"; "SYNC"; "12 V A RTN"; "SYNC RTN"; "+12 V B"; "CHASSIS"; "12 V B RTN"

## SA50-120-5S-A-H
designator G?  (value not drawn)  (graphical)
Производитель: Microsemi; Value: SA50-120-5S-A-H
pins: 1, 2, 3, 4, 5, 6, 7, 8, 9, 10, 11, 12
text: "+120 V IN"; "5 V RTN"; "+120 V RTN"; "+5 V"; "ON/OFF"; "Remote sense"; "SYNC"; "Remote sense RTN"; "SYNC RTN"; "PARALLEL"; "CHASSIS"; "R-ADJUST"

## Signal direction
designator *  (value not drawn)  (graphical)

## SN65LVDM051D
designator D?  (value not drawn)
Value: SN65LVDM051D
footprint SOIC-16 (Footprint not found)
pins: 1 1B, 2 1A, 3 1R, 4 1DE, 5 2R, 6 2A, 7 2B, 8 GND, 9 2D, 10 2Y, 11 2Z, 12 2DE, 13 1Z, 14 1Y, 15 1D, 16 VCC

## SN65LVDS31D
designator D?  (value not drawn)
Value: SN65LVDS31D
footprint D016_N (16-Pin Small Outline Integrated Circuit 1.27 mm Pitch, IPC Medium Density)
pins: 1 1A, 2 1Y, 3 1Z, 4 G, 5 2Z, 6 2Y, 7 2A, 8 GND, 9 3A, 10 3Y, 11 3Z, 12 ~{G}, 13 4Z, 14 4Y, 15 4A, 16 VCC

## SN65LVDS32D
designator D?  (value not drawn)
Value: SN65LVDS32D
footprint D016_N (16-Pin Small Outline Integrated Circuit 1.27 mm Pitch, IPC Medium Density)
pins: 1 1B, 2 1A, 3 1Y, 4 G, 5 2Y, 6 2A, 7 2B, 8 GND, 9 3B, 10 3A, 11 3Y, 12 ~{G}, 13 4Y, 14 4A, 15 4B, 16 VCC

## SN74AHC1G14DRLR
designator D?  (value not drawn)
Value: SN74AHC1G14DRLR
footprint SOT23-5AM (SOT23, 5-Leads, Body 2.9x1.7mm, Pitch 0.95mm, Lead Span 2.8mm, IPC Low Density)
pins: 2, 3 GND, 4, 5 VCC
text: 1

## SN74F244DB
designator D?, comment SN74F244DBR  (value not drawn)
Value: SN74F244DBR
footprint SSOP-20 (Footprint not found)
pins: 1 1OE, 2 1A1, 3 2Y4, 4 1A2, 5 2Y3, 6 1A3, 7 2Y2, 8 1A4, 9 2Y1, 10 GND, 11 2A1, 12 1Y4, 13 2A2, 14 1Y3, 15 2A3, 16 1Y2, 17 2A4, 18 1Y1, 19 2OE, 20 VCC
text: BUF

## SN74F244DW
designator D?  (value not drawn)
Value: SN74F244DW
footprint PW-24 (TSOP, 24-Leads, Body 7,9x4,5mm (max), Pitch 0,65mm, IPC Medium Density)
pins: 1 1OE, 2 1A1, 3 2Y4, 4 1A2, 5 2Y3, 6 1A3, 7 2Y2, 8 1A4, 9 2Y1, 10 GND, 11 2A1, 12 1Y4, 13 2A2, 14 1Y3, 15 2A3, 16 1Y2, 17 2A4, 18 1Y1, 19 2OE, 20 VCC
text: X/Y

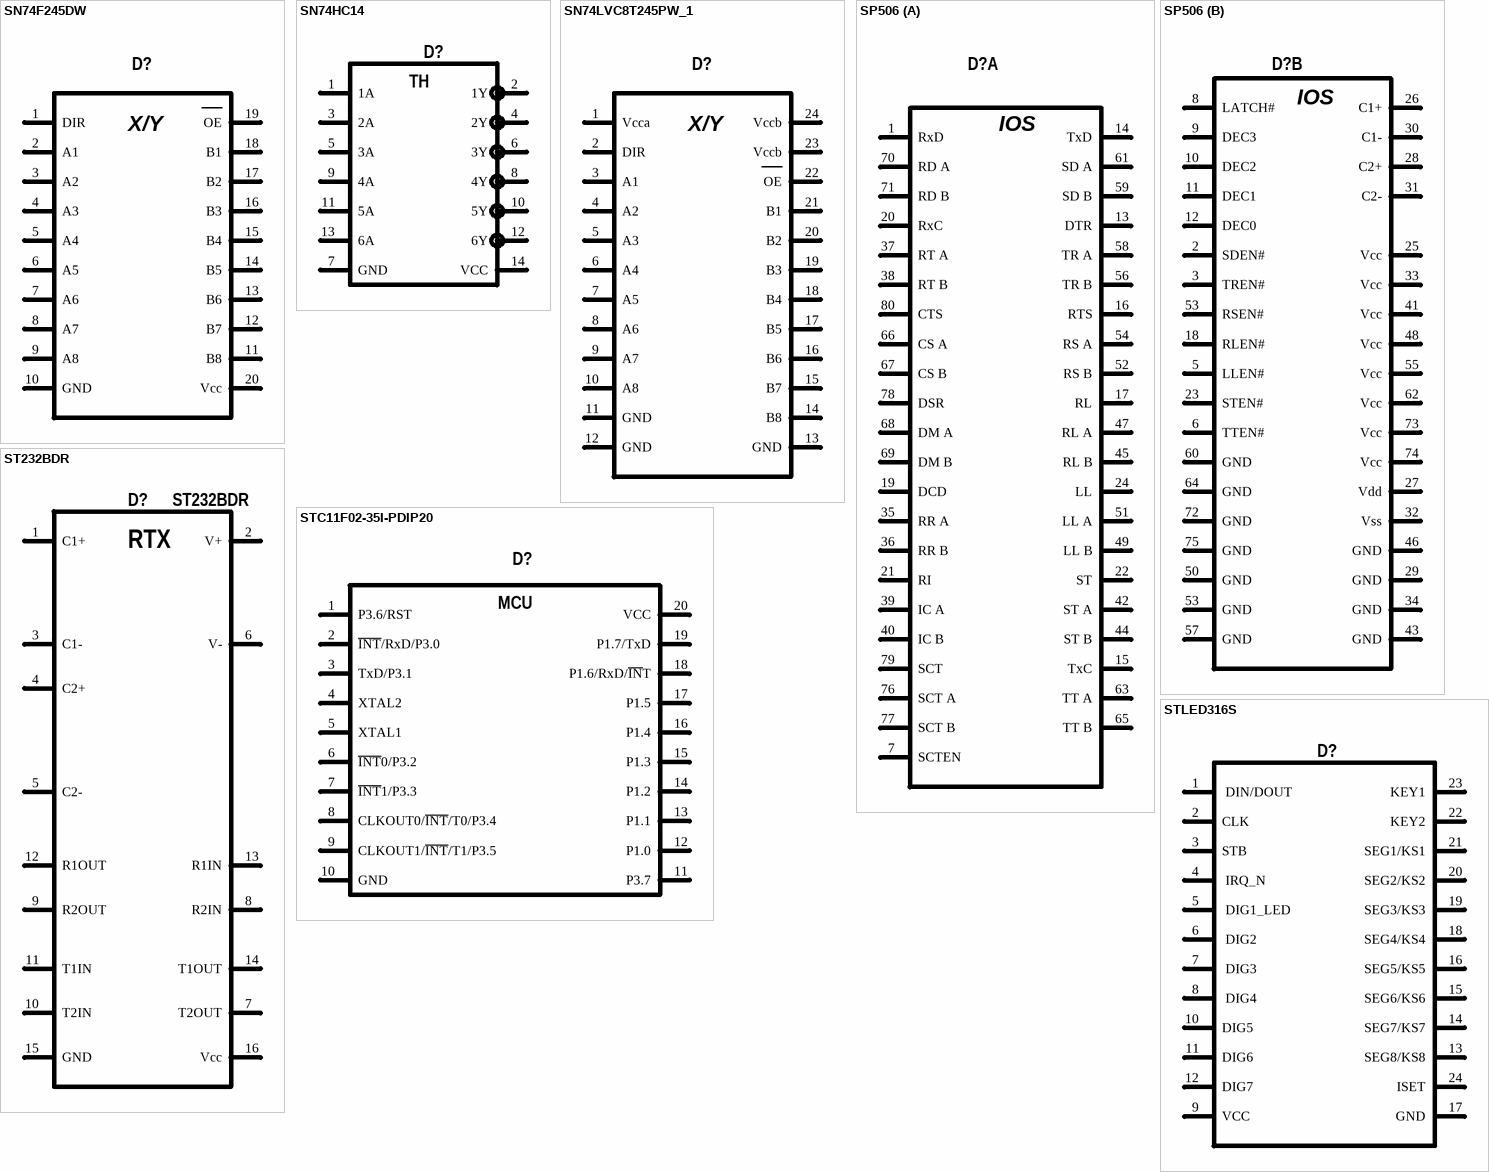
[diagram p15: symbols SN74F245DW to STLED316S]

## SN74F245DW
designator D?  (value not drawn)
Value: SN74F245DW
footprint PW-24 (TSOP, 24-Leads, Body 7,9x4,5mm (max), Pitch 0,65mm, IPC Medium Density)
pins: 1 DIR, 2 A1, 3 A2, 4 A3, 5 A4, 6 A5, 7 A6, 8 A7, 9 A8, 10 GND, 11 B8, 12 B7, 13 B6, 14 B5, 15 B4, 16 B3, 17 B2, 18 B1, 19 OE, 20 Vcc
text: X/Y

## SN74HC14
designator D?
pins: 1 1A, 2 1Y, 3 2A, 4 2Y, 5 3A, 6 3Y, 7 GND, 8 4Y, 9 4A, 10 5Y, 11 5A, 12 6Y, 13 6A, 14 VCC
text: TH

## SN74LVC8T245PW_1
designator D?, comment SN74LVC8T245PW  (value not drawn)
Value: SN74LVC8T245PW
footprint PW-24 (TSOP, 24-Leads, Body 7,9x4,5mm (max), Pitch 0,65mm, IPC Medium Density)
pins: 1 Vcca, 2 DIR, 3 A1, 4 A2, 5 A3, 6 A4, 7 A5, 8 A6, 9 A7, 10 A8, 11 GND, 12 GND, 13 GND, 14 B8, 15 B7, 16 B6, 17 B5, 18 B4, 19 B3, 20 B2, 21 B1, 22 OE, 23 Vccb, 24 Vccb
text: X/Y

## SP506
designator D?  (value not drawn)
Value: SP506
part A pins: 1 RxD, 7 SCTEN, 13 DTR, 14 TxD, 15 TxC, 16 RTS, 17 RL, 19 DCD, 20 RxC, 21 RI, 22 ST, 24 LL, 35 RR A, 36 RR B, 37 RT A, 38 RT B, 39 IC A, 40 IC B, 42 ST A, 44 ST B, 45 RL B, 47 RL A, 49 LL B, 51 LL A, 52 RS B, 54 RS A, 56 TR B, 58 TR A, 59 SD B, 61 SD A, 63 TT A, 65 TT B, 66 CS A, 67 CS B, 68 DM A, 69 DM B, 70 RD A, 71 RD B, 76 SCT A, 77 SCT B, 78 DSR, 79 SCT, 80 CTS
part B pins: 2 SDEN#, 3 TREN#, 5 LLEN#, 6 TTEN#, 8 LATCH#, 9 DEC3, 10 DEC2, 11 DEC1, 12 DEC0, 18 RLEN#, 23 STEN#, 25 Vcc, 26 C1+, 27 Vdd, 28 C2+, 29 GND, 30 C1-, 31 C2-, 32 Vss, 33 Vcc, 34 GND, 41 Vcc, 43 GND, 46 GND, 48 Vcc, 50 GND, 53 GND, 53 RSEN#, 55 Vcc, 57 GND, 60 GND, 62 Vcc, 64 GND, 72 GND, 73 Vcc, 74 Vcc, 75 GND
part A text: IOS
part B text: IOS

## ST232BDR
designator D?
Value: ST232BDR
pins: 1 C1+, 2 V+, 3 C1-, 4 C2+, 5 C2-, 6 V-, 7 T2OUT, 8 R2IN, 9 R2OUT, 10 T2IN, 11 T1IN, 12 R1OUT, 13 R1IN, 14 T1OUT, 15 GND, 16 Vcc
text: RTX

## STC11F02-35I-PDIP20
designator D?  (value not drawn)
Value: STC11F02-35I-PDIP20
pins: 1 P3.6/RST, 2 ~{INT}/RxD/P3.0, 3 TxD/P3.1, 4 XTAL2, 5 XTAL1, 6 ~{INT}0/P3.2, 7 ~{INT}1/P3.3, 8 CLKOUT0/~{INT}/T0/P3.4, 9 CLKOUT1/~{INT}/T1/P3.5, 10 GND, 11 P3.7, 12 P1.0, 13 P1.1, 14 P1.2, 15 P1.3, 16 P1.4, 17 P1.5, 18 P1.6/RxD/~{IN}T, 19 P1.7/TxD, 20 VCC
text: MCU

## STLED316S
designator D?
pins: 1  DIN/DOUT, 2 CLK, 3 STB, 4  IRQ_N, 5  DIG1_LED, 6  DIG2, 7  DIG3, 8  DIG4, 9 VCC, 10 DIG5, 11 DIG6, 12 DIG7, 13 SEG8/KS8, 14 SEG7/KS7, 15 SEG6/KS6, 16 SEG5/KS5, 17 GND, 18 SEG4/KS4, 19 SEG3/KS3, 20 SEG2/KS2, 21 SEG1/KS1, 22 KEY2, 23 KEY1, 24 ISET

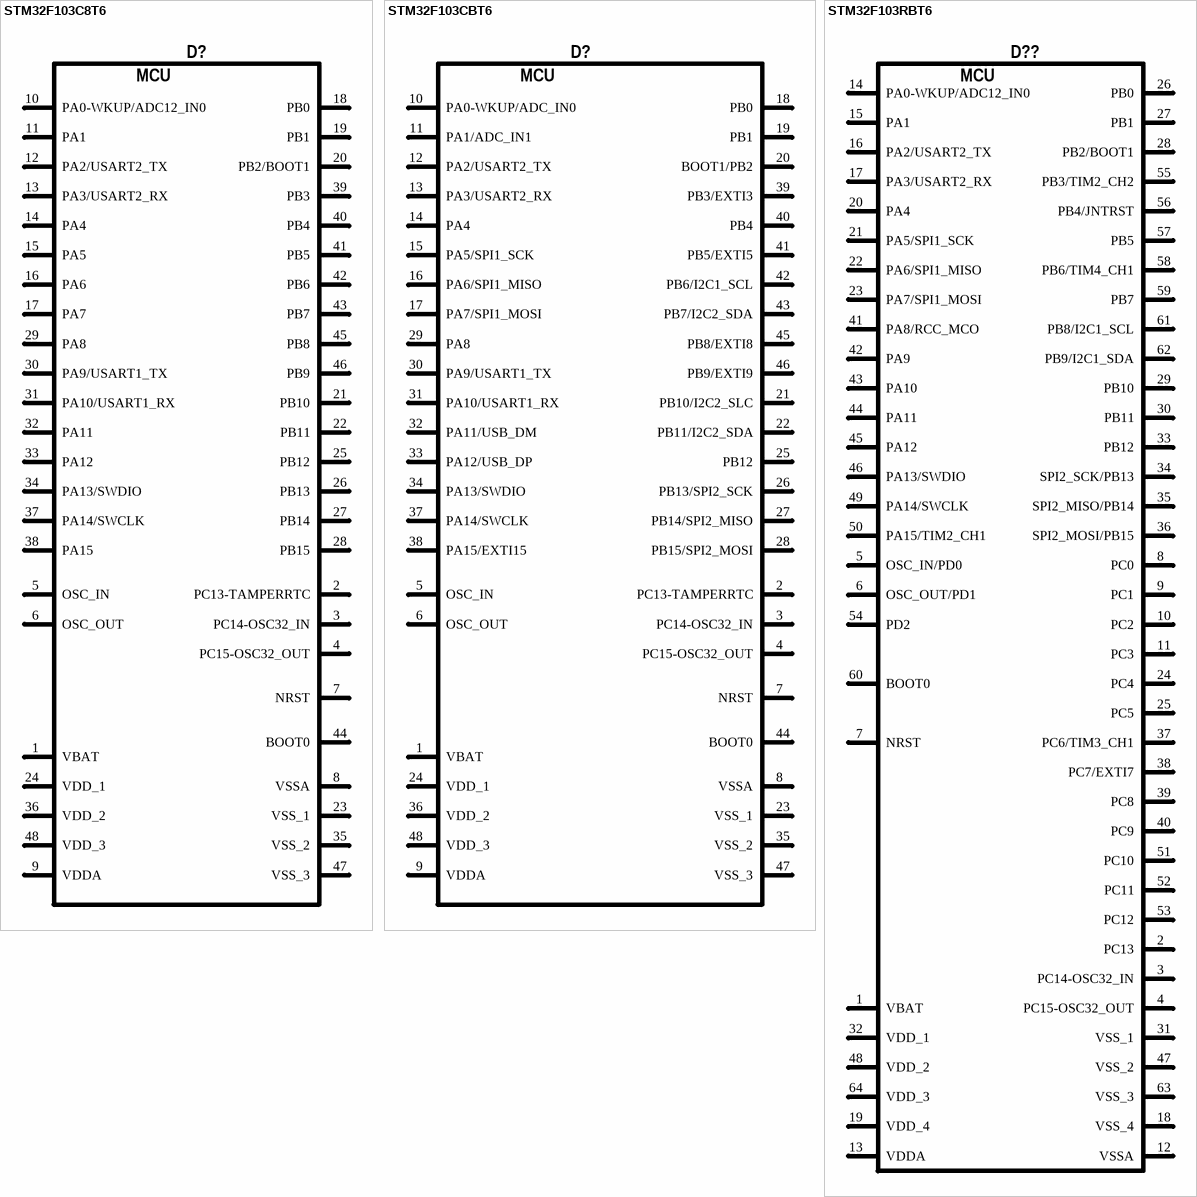
[diagram p16: symbols STM32F103C8T6 to STM32F103RBT6]

## STM32F103C8T6
designator D?, comment STM32F103RBT6  (value not drawn)
Value: STM32F103RBT6; SimpleValue: STM32F103RBT6
pins: 1 VBAT (power), 2 PC13-TAMPERRTC, 3 PC14-OSC32_IN, 4 PC15-OSC32_OUT, 5 OSC_IN, 6 OSC_OUT, 7 NRST, 8 VSSA (power), 9 VDDA (power), 10 PA0-WKUP/ADC12_IN0, 11 PA1, 12 PA2/USART2_TX, 13 PA3/USART2_RX, 14 PA4, 15 PA5, 16 PA6, 17 PA7, 18 PB0, 19 PB1, 20 PB2/BOOT1, 21 PB10, 22 PB11, 23 VSS_1 (power), 24 VDD_1 (power), 25 PB12, 26 PB13, 27 PB14, 28 PB15, 29 PA8, 30 PA9/USART1_TX, 31 PA10/USART1_RX, 32 PA11, 33 PA12, 34 PA13/SWDIO, 35 VSS_2 (power), 36 VDD_2 (power), 37 PA14/SWCLK, 38 PA15, 39 PB3, 40 PB4, 41 PB5, 42 PB6, 43 PB7, 44 BOOT0, 45 PB8, 46 PB9, 47 VSS_3 (power), 48 VDD_3 (power)
text: MCU

## STM32F103CBT6
designator D?  (value not drawn)
Value: STM32F103CBT6; SimpleValue: STM32F103CBT6
pins: 1 VBAT (power), 2 PC13-TAMPERRTC, 3 PC14-OSC32_IN, 4 PC15-OSC32_OUT, 5 OSC_IN, 6 OSC_OUT, 7 NRST, 8 VSSA (power), 9 VDDA (power), 10 PA0-WKUP/ADC_IN0, 11 PA1/ADC_IN1, 12 PA2/USART2_TX, 13 PA3/USART2_RX, 14 PA4, 15 PA5/SPI1_SCK, 16 PA6/SPI1_MISO, 17 PA7/SPI1_MOSI, 18 PB0, 19 PB1, 20 BOOT1/PB2, 21 PB10/I2C2_SLC, 22 PB11/I2C2_SDA, 23 VSS_1 (power), 24 VDD_1 (power), 25 PB12, 26 PB13/SPI2_SCK, 27 PB14/SPI2_MISO, 28 PB15/SPI2_MOSI, 29 PA8, 30 PA9/USART1_TX, 31 PA10/USART1_RX, 32 PA11/USB_DM, 33 PA12/USB_DP, 34 PA13/SWDIO, 35 VSS_2 (power), 36 VDD_2 (power), 37 PA14/SWCLK, 38 PA15/EXTI15, 39 PB3/EXTI3, 40 PB4, 41 PB5/EXTI5, 42 PB6/I2C1_SCL, 43 PB7/I2C2_SDA, 44 BOOT0, 45 PB8/EXTI8, 46 PB9/EXTI9, 47 VSS_3 (power), 48 VDD_3 (power)
text: MCU